# Altium integrated library Nuvoton Microprocessor Cortex-M0.IntLib: 45 symbols (part 1 of 2)
Pins are listed as number, name and electrical type; pins without a type are passive.

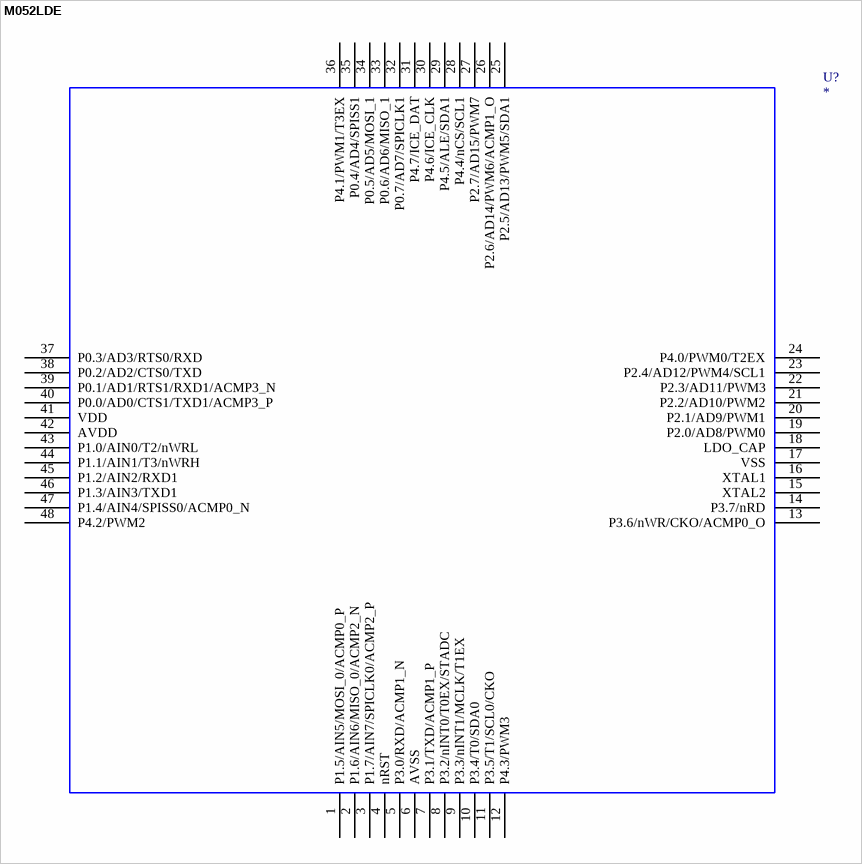
[diagram p0: symbol M052LDE]

## M052LDE
designator U?
M052LDE; OriginalSymbolOrigin: *; M052LDE: *; Value: *
footprint TSQFP50P900X900X150-48N (TSQFP, 48-Leads, Body 7.00x7.00mm, Pitch 0.50mm, IPC Medium Density)
footprint TSQFP50P900X900X150-48M (TSQFP, 48-Leads, Body 7.00x7.00mm, Pitch 0.50mm, IPC Low Density)
footprint TSQFP50P900X900X150-48L (TSQFP, 48-Leads, Body 7.00x7.00mm, Pitch 0.50mm, IPC High Density)
pins: 1 P1.5/AIN5/MOSI_0/ACMP0_P, 2 P1.6/AIN6/MISO_0/ACMP2_N, 3 P1.7/AIN7/SPICLK0/ACMP2_P, 4 nRST, 5 P3.0/RXD/ACMP1_N, 6 AVSS, 7 P3.1/TXD/ACMP1_P, 8 P3.2/nINT0/T0EX/STADC, 9 P3.3/nINT1/MCLK/T1EX, 10 P3.4/T0/SDA0, 11 P3.5/T1/SCL0/CKO, 12 P4.3/PWM3, 13 P3.6/nWR/CKO/ACMP0_O, 14 P3.7/nRD, 15 XTAL2, 16 XTAL1, 17 VSS, 18 LDO_CAP, 19 P2.0/AD8/PWM0, 20 P2.1/AD9/PWM1, 21 P2.2/AD10/PWM2, 22 P2.3/AD11/PWM3, 23 P2.4/AD12/PWM4/SCL1, 24 P4.0/PWM0/T2EX, 25 P2.5/AD13/PWM5/SDA1, 26 P2.6/AD14/PWM6/ACMP1_O, 27 P2.7/AD15/PWM7, 28 P4.4/nCS/SCL1, 29 P4.5/ALE/SDA1, 30 P4.6/ICE_CLK, 31 P4.7/ICE_DAT, 32 P0.7/AD7/SPICLK1, 33 P0.6/AD6/MISO_1, 34 P0.5/AD5/MOSI_1, 35 P0.4/AD4/SPISS1, 36 P4.1/PWM1/T3EX, 37 P0.3/AD3/RTS0/RXD, 38 P0.2/AD2/CTS0/TXD, 39 P0.1/AD1/RTS1/RXD1/ACMP3_N, 40 P0.0/AD0/CTS1/TXD1/ACMP3_P, 41 VDD, 42 AVDD, 43 P1.0/AIN0/T2/nWRL, 44 P1.1/AIN1/T3/nWRH, 45 P1.2/AIN2/RXD1, 46 P1.3/AIN3/TXD1, 47 P1.4/AIN4/SPISS0/ACMP0_N, 48 P4.2/PWM2
2 alternate drawings of the same symbol

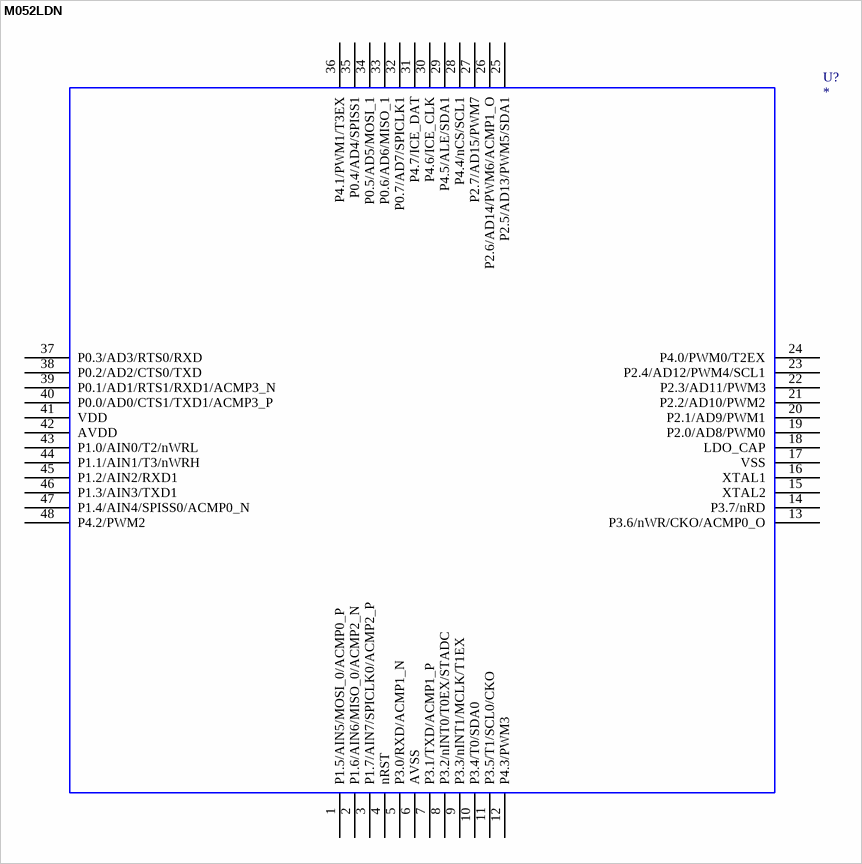
[diagram p1: symbol M052LDN]

## M052LDN
designator U?
M052LDN; OriginalSymbolOrigin: *; M052LDN: *; Value: *
footprint TSQFP50P900X900X150-48M (TSQFP, 48-Leads, Body 7.00x7.00mm, Pitch 0.50mm, IPC Low Density)
footprint TSQFP50P900X900X150-48N (TSQFP, 48-Leads, Body 7.00x7.00mm, Pitch 0.50mm, IPC Medium Density)
footprint TSQFP50P900X900X150-48L (TSQFP, 48-Leads, Body 7.00x7.00mm, Pitch 0.50mm, IPC High Density)
pins: 1 P1.5/AIN5/MOSI_0/ACMP0_P, 2 P1.6/AIN6/MISO_0/ACMP2_N, 3 P1.7/AIN7/SPICLK0/ACMP2_P, 4 nRST, 5 P3.0/RXD/ACMP1_N, 6 AVSS, 7 P3.1/TXD/ACMP1_P, 8 P3.2/nINT0/T0EX/STADC, 9 P3.3/nINT1/MCLK/T1EX, 10 P3.4/T0/SDA0, 11 P3.5/T1/SCL0/CKO, 12 P4.3/PWM3, 13 P3.6/nWR/CKO/ACMP0_O, 14 P3.7/nRD, 15 XTAL2, 16 XTAL1, 17 VSS, 18 LDO_CAP, 19 P2.0/AD8/PWM0, 20 P2.1/AD9/PWM1, 21 P2.2/AD10/PWM2, 22 P2.3/AD11/PWM3, 23 P2.4/AD12/PWM4/SCL1, 24 P4.0/PWM0/T2EX, 25 P2.5/AD13/PWM5/SDA1, 26 P2.6/AD14/PWM6/ACMP1_O, 27 P2.7/AD15/PWM7, 28 P4.4/nCS/SCL1, 29 P4.5/ALE/SDA1, 30 P4.6/ICE_CLK, 31 P4.7/ICE_DAT, 32 P0.7/AD7/SPICLK1, 33 P0.6/AD6/MISO_1, 34 P0.5/AD5/MOSI_1, 35 P0.4/AD4/SPISS1, 36 P4.1/PWM1/T3EX, 37 P0.3/AD3/RTS0/RXD, 38 P0.2/AD2/CTS0/TXD, 39 P0.1/AD1/RTS1/RXD1/ACMP3_N, 40 P0.0/AD0/CTS1/TXD1/ACMP3_P, 41 VDD, 42 AVDD, 43 P1.0/AIN0/T2/nWRL, 44 P1.1/AIN1/T3/nWRH, 45 P1.2/AIN2/RXD1, 46 P1.3/AIN3/TXD1, 47 P1.4/AIN4/SPISS0/ACMP0_N, 48 P4.2/PWM2
2 alternate drawings of the same symbol

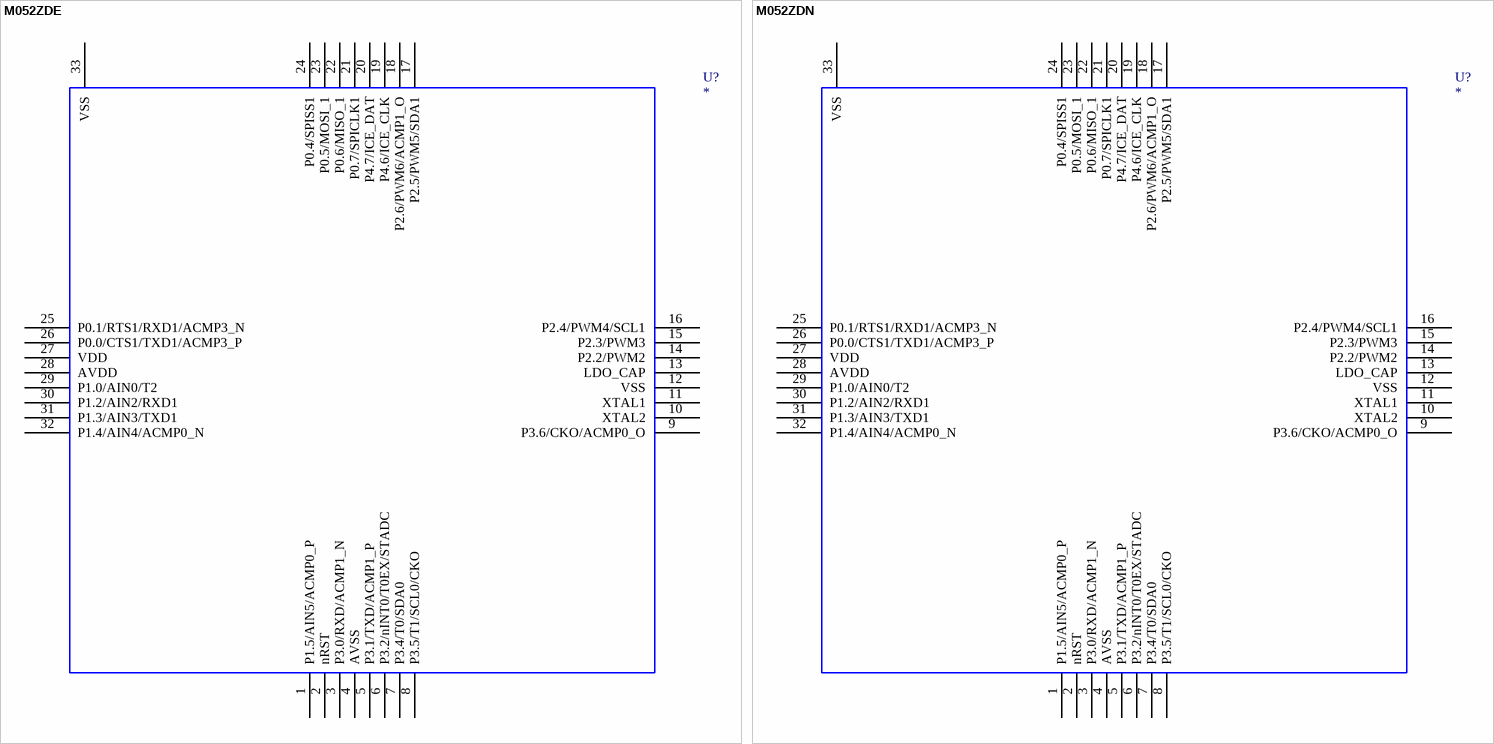
[diagram p2: symbols M052ZDE to M052ZDN]

## M052ZDE
designator U?
M052ZDE; OriginalSymbolOrigin: *; M052ZDE: *; Value: *
footprint QFN50P500X500X80_HS-33N (QFN, 32-Leads, Body 5.00x5.00mm, Pitch 0.50mm, Thermal Pad 3.50x3.50mm, IPC Medium Density)
footprint QFN50P500X500X80_HS-33M (QFN, 32-Leads, Body 5.00x5.00mm, Pitch 0.50mm, Thermal Pad 3.50x3.50mm, IPC Low Density)
footprint QFN50P500X500X80_HS-33L (QFN, 32-Leads, Body 5.00x5.00mm, Pitch 0.50mm, Thermal Pad 3.50x3.50mm, IPC High Density)
pins: 1 P1.5/AIN5/ACMP0_P, 2 nRST, 3 P3.0/RXD/ACMP1_N, 4 AVSS, 5 P3.1/TXD/ACMP1_P, 6 P3.2/nINT0/T0EX/STADC, 7 P3.4/T0/SDA0, 8 P3.5/T1/SCL0/CKO, 9 P3.6/CKO/ACMP0_O, 10 XTAL2, 11 XTAL1, 12 VSS, 13 LDO_CAP, 14 P2.2/PWM2, 15 P2.3/PWM3, 16 P2.4/PWM4/SCL1, 17 P2.5/PWM5/SDA1, 18 P2.6/PWM6/ACMP1_O, 19 P4.6/ICE_CLK, 20 P4.7/ICE_DAT, 21 P0.7/SPICLK1, 22 P0.6/MISO_1, 23 P0.5/MOSI_1, 24 P0.4/SPISS1, 25 P0.1/RTS1/RXD1/ACMP3_N, 26 P0.0/CTS1/TXD1/ACMP3_P, 27 VDD, 28 AVDD, 29 P1.0/AIN0/T2, 30 P1.2/AIN2/RXD1, 31 P1.3/AIN3/TXD1, 32 P1.4/AIN4/ACMP0_N, 33 VSS
2 alternate drawings of the same symbol

## M052ZDN
designator U?
M052ZDN; OriginalSymbolOrigin: *; M052ZDN: *; Value: *
footprint QFN50P500X500X80_HS-33N (QFN, 32-Leads, Body 5.00x5.00mm, Pitch 0.50mm, Thermal Pad 3.50x3.50mm, IPC Medium Density)
footprint QFN50P500X500X80_HS-33M (QFN, 32-Leads, Body 5.00x5.00mm, Pitch 0.50mm, Thermal Pad 3.50x3.50mm, IPC Low Density)
footprint QFN50P500X500X80_HS-33L (QFN, 32-Leads, Body 5.00x5.00mm, Pitch 0.50mm, Thermal Pad 3.50x3.50mm, IPC High Density)
pins: 1 P1.5/AIN5/ACMP0_P, 2 nRST, 3 P3.0/RXD/ACMP1_N, 4 AVSS, 5 P3.1/TXD/ACMP1_P, 6 P3.2/nINT0/T0EX/STADC, 7 P3.4/T0/SDA0, 8 P3.5/T1/SCL0/CKO, 9 P3.6/CKO/ACMP0_O, 10 XTAL2, 11 XTAL1, 12 VSS, 13 LDO_CAP, 14 P2.2/PWM2, 15 P2.3/PWM3, 16 P2.4/PWM4/SCL1, 17 P2.5/PWM5/SDA1, 18 P2.6/PWM6/ACMP1_O, 19 P4.6/ICE_CLK, 20 P4.7/ICE_DAT, 21 P0.7/SPICLK1, 22 P0.6/MISO_1, 23 P0.5/MOSI_1, 24 P0.4/SPISS1, 25 P0.1/RTS1/RXD1/ACMP3_N, 26 P0.0/CTS1/TXD1/ACMP3_P, 27 VDD, 28 AVDD, 29 P1.0/AIN0/T2, 30 P1.2/AIN2/RXD1, 31 P1.3/AIN3/TXD1, 32 P1.4/AIN4/ACMP0_N, 33 VSS
2 alternate drawings of the same symbol

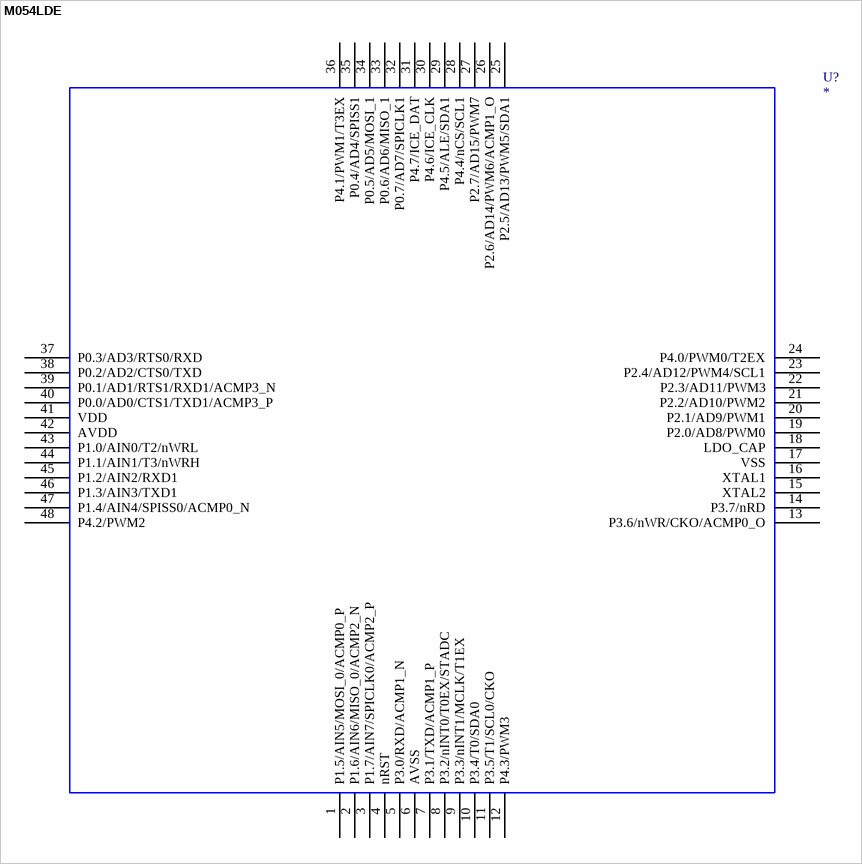
[diagram p3: symbol M054LDE]

## M054LDE
designator U?
M054LDE; OriginalSymbolOrigin: *; M054LDE: *; Value: *
footprint TSQFP50P900X900X150-48N (TSQFP, 48-Leads, Body 7.00x7.00mm, Pitch 0.50mm, IPC Medium Density)
footprint TSQFP50P900X900X150-48M (TSQFP, 48-Leads, Body 7.00x7.00mm, Pitch 0.50mm, IPC Low Density)
footprint TSQFP50P900X900X150-48L (TSQFP, 48-Leads, Body 7.00x7.00mm, Pitch 0.50mm, IPC High Density)
pins: 1 P1.5/AIN5/MOSI_0/ACMP0_P, 2 P1.6/AIN6/MISO_0/ACMP2_N, 3 P1.7/AIN7/SPICLK0/ACMP2_P, 4 nRST, 5 P3.0/RXD/ACMP1_N, 6 AVSS, 7 P3.1/TXD/ACMP1_P, 8 P3.2/nINT0/T0EX/STADC, 9 P3.3/nINT1/MCLK/T1EX, 10 P3.4/T0/SDA0, 11 P3.5/T1/SCL0/CKO, 12 P4.3/PWM3, 13 P3.6/nWR/CKO/ACMP0_O, 14 P3.7/nRD, 15 XTAL2, 16 XTAL1, 17 VSS, 18 LDO_CAP, 19 P2.0/AD8/PWM0, 20 P2.1/AD9/PWM1, 21 P2.2/AD10/PWM2, 22 P2.3/AD11/PWM3, 23 P2.4/AD12/PWM4/SCL1, 24 P4.0/PWM0/T2EX, 25 P2.5/AD13/PWM5/SDA1, 26 P2.6/AD14/PWM6/ACMP1_O, 27 P2.7/AD15/PWM7, 28 P4.4/nCS/SCL1, 29 P4.5/ALE/SDA1, 30 P4.6/ICE_CLK, 31 P4.7/ICE_DAT, 32 P0.7/AD7/SPICLK1, 33 P0.6/AD6/MISO_1, 34 P0.5/AD5/MOSI_1, 35 P0.4/AD4/SPISS1, 36 P4.1/PWM1/T3EX, 37 P0.3/AD3/RTS0/RXD, 38 P0.2/AD2/CTS0/TXD, 39 P0.1/AD1/RTS1/RXD1/ACMP3_N, 40 P0.0/AD0/CTS1/TXD1/ACMP3_P, 41 VDD, 42 AVDD, 43 P1.0/AIN0/T2/nWRL, 44 P1.1/AIN1/T3/nWRH, 45 P1.2/AIN2/RXD1, 46 P1.3/AIN3/TXD1, 47 P1.4/AIN4/SPISS0/ACMP0_N, 48 P4.2/PWM2
2 alternate drawings of the same symbol

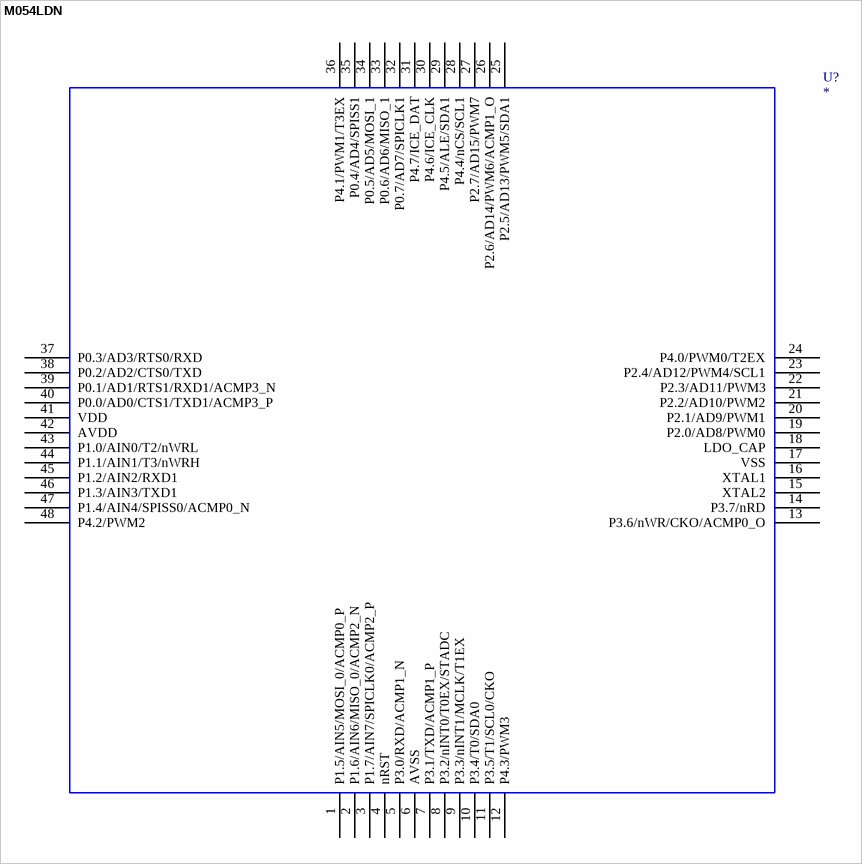
[diagram p4: symbol M054LDN]

## M054LDN
designator U?
M054LDN; OriginalSymbolOrigin: *; M054LDN: *; Value: *
footprint TSQFP50P900X900X150-48N (TSQFP, 48-Leads, Body 7.00x7.00mm, Pitch 0.50mm, IPC Medium Density)
footprint TSQFP50P900X900X150-48M (TSQFP, 48-Leads, Body 7.00x7.00mm, Pitch 0.50mm, IPC Low Density)
footprint TSQFP50P900X900X150-48L (TSQFP, 48-Leads, Body 7.00x7.00mm, Pitch 0.50mm, IPC High Density)
pins: 1 P1.5/AIN5/MOSI_0/ACMP0_P, 2 P1.6/AIN6/MISO_0/ACMP2_N, 3 P1.7/AIN7/SPICLK0/ACMP2_P, 4 nRST, 5 P3.0/RXD/ACMP1_N, 6 AVSS, 7 P3.1/TXD/ACMP1_P, 8 P3.2/nINT0/T0EX/STADC, 9 P3.3/nINT1/MCLK/T1EX, 10 P3.4/T0/SDA0, 11 P3.5/T1/SCL0/CKO, 12 P4.3/PWM3, 13 P3.6/nWR/CKO/ACMP0_O, 14 P3.7/nRD, 15 XTAL2, 16 XTAL1, 17 VSS, 18 LDO_CAP, 19 P2.0/AD8/PWM0, 20 P2.1/AD9/PWM1, 21 P2.2/AD10/PWM2, 22 P2.3/AD11/PWM3, 23 P2.4/AD12/PWM4/SCL1, 24 P4.0/PWM0/T2EX, 25 P2.5/AD13/PWM5/SDA1, 26 P2.6/AD14/PWM6/ACMP1_O, 27 P2.7/AD15/PWM7, 28 P4.4/nCS/SCL1, 29 P4.5/ALE/SDA1, 30 P4.6/ICE_CLK, 31 P4.7/ICE_DAT, 32 P0.7/AD7/SPICLK1, 33 P0.6/AD6/MISO_1, 34 P0.5/AD5/MOSI_1, 35 P0.4/AD4/SPISS1, 36 P4.1/PWM1/T3EX, 37 P0.3/AD3/RTS0/RXD, 38 P0.2/AD2/CTS0/TXD, 39 P0.1/AD1/RTS1/RXD1/ACMP3_N, 40 P0.0/AD0/CTS1/TXD1/ACMP3_P, 41 VDD, 42 AVDD, 43 P1.0/AIN0/T2/nWRL, 44 P1.1/AIN1/T3/nWRH, 45 P1.2/AIN2/RXD1, 46 P1.3/AIN3/TXD1, 47 P1.4/AIN4/SPISS0/ACMP0_N, 48 P4.2/PWM2
2 alternate drawings of the same symbol

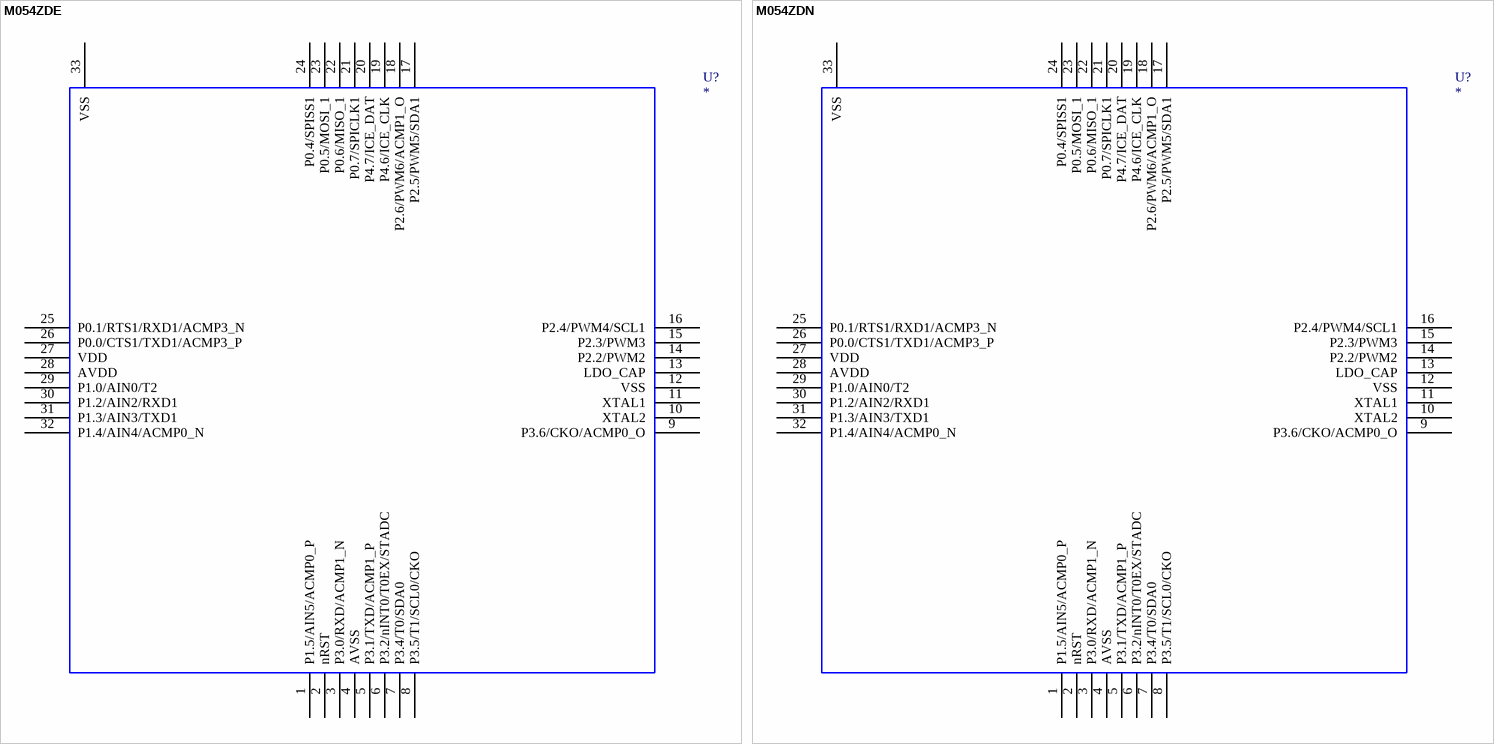
[diagram p5: symbols M054ZDE to M054ZDN]

## M054ZDE
designator U?
M054ZDE; OriginalSymbolOrigin: *; M054ZDE: *; Value: *
footprint QFN50P500X500X80_HS-33N (QFN, 32-Leads, Body 5.00x5.00mm, Pitch 0.50mm, Thermal Pad 3.50x3.50mm, IPC Medium Density)
footprint QFN50P500X500X80_HS-33M (QFN, 32-Leads, Body 5.00x5.00mm, Pitch 0.50mm, Thermal Pad 3.50x3.50mm, IPC Low Density)
footprint QFN50P500X500X80_HS-33L (QFN, 32-Leads, Body 5.00x5.00mm, Pitch 0.50mm, Thermal Pad 3.50x3.50mm, IPC High Density)
pins: 1 P1.5/AIN5/ACMP0_P, 2 nRST, 3 P3.0/RXD/ACMP1_N, 4 AVSS, 5 P3.1/TXD/ACMP1_P, 6 P3.2/nINT0/T0EX/STADC, 7 P3.4/T0/SDA0, 8 P3.5/T1/SCL0/CKO, 9 P3.6/CKO/ACMP0_O, 10 XTAL2, 11 XTAL1, 12 VSS, 13 LDO_CAP, 14 P2.2/PWM2, 15 P2.3/PWM3, 16 P2.4/PWM4/SCL1, 17 P2.5/PWM5/SDA1, 18 P2.6/PWM6/ACMP1_O, 19 P4.6/ICE_CLK, 20 P4.7/ICE_DAT, 21 P0.7/SPICLK1, 22 P0.6/MISO_1, 23 P0.5/MOSI_1, 24 P0.4/SPISS1, 25 P0.1/RTS1/RXD1/ACMP3_N, 26 P0.0/CTS1/TXD1/ACMP3_P, 27 VDD, 28 AVDD, 29 P1.0/AIN0/T2, 30 P1.2/AIN2/RXD1, 31 P1.3/AIN3/TXD1, 32 P1.4/AIN4/ACMP0_N, 33 VSS
2 alternate drawings of the same symbol

## M054ZDN
designator U?
M054ZDN; OriginalSymbolOrigin: *; M054ZDN: *; Value: *
footprint QFN50P500X500X80_HS-33N (QFN, 32-Leads, Body 5.00x5.00mm, Pitch 0.50mm, Thermal Pad 3.50x3.50mm, IPC Medium Density)
footprint QFN50P500X500X80_HS-33M (QFN, 32-Leads, Body 5.00x5.00mm, Pitch 0.50mm, Thermal Pad 3.50x3.50mm, IPC Low Density)
footprint QFN50P500X500X80_HS-33L (QFN, 32-Leads, Body 5.00x5.00mm, Pitch 0.50mm, Thermal Pad 3.50x3.50mm, IPC High Density)
pins: 1 P1.5/AIN5/ACMP0_P, 2 nRST, 3 P3.0/RXD/ACMP1_N, 4 AVSS, 5 P3.1/TXD/ACMP1_P, 6 P3.2/nINT0/T0EX/STADC, 7 P3.4/T0/SDA0, 8 P3.5/T1/SCL0/CKO, 9 P3.6/CKO/ACMP0_O, 10 XTAL2, 11 XTAL1, 12 VSS, 13 LDO_CAP, 14 P2.2/PWM2, 15 P2.3/PWM3, 16 P2.4/PWM4/SCL1, 17 P2.5/PWM5/SDA1, 18 P2.6/PWM6/ACMP1_O, 19 P4.6/ICE_CLK, 20 P4.7/ICE_DAT, 21 P0.7/SPICLK1, 22 P0.6/MISO_1, 23 P0.5/MOSI_1, 24 P0.4/SPISS1, 25 P0.1/RTS1/RXD1/ACMP3_N, 26 P0.0/CTS1/TXD1/ACMP3_P, 27 VDD, 28 AVDD, 29 P1.0/AIN0/T2, 30 P1.2/AIN2/RXD1, 31 P1.3/AIN3/TXD1, 32 P1.4/AIN4/ACMP0_N, 33 VSS
2 alternate drawings of the same symbol

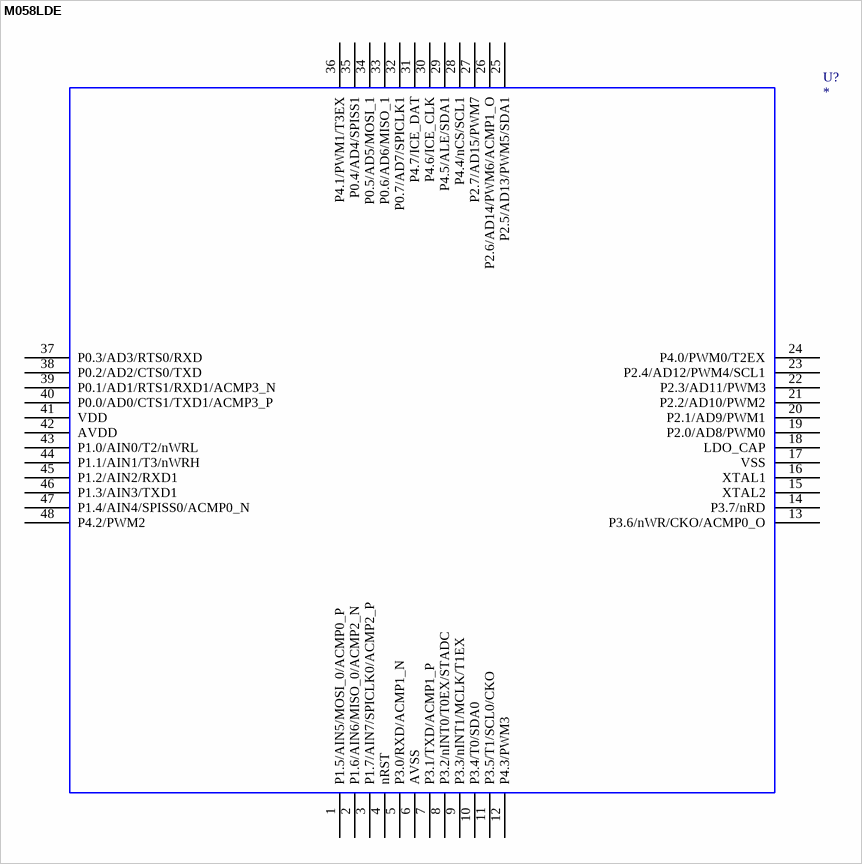
[diagram p6: symbol M058LDE]

## M058LDE
designator U?
M058LDE; OriginalSymbolOrigin: *; M058LDE: *; Value: *
footprint TSQFP50P900X900X150-48N (TSQFP, 48-Leads, Body 7.00x7.00mm, Pitch 0.50mm, IPC Medium Density)
footprint TSQFP50P900X900X150-48M (TSQFP, 48-Leads, Body 7.00x7.00mm, Pitch 0.50mm, IPC Low Density)
footprint TSQFP50P900X900X150-48L (TSQFP, 48-Leads, Body 7.00x7.00mm, Pitch 0.50mm, IPC High Density)
pins: 1 P1.5/AIN5/MOSI_0/ACMP0_P, 2 P1.6/AIN6/MISO_0/ACMP2_N, 3 P1.7/AIN7/SPICLK0/ACMP2_P, 4 nRST, 5 P3.0/RXD/ACMP1_N, 6 AVSS, 7 P3.1/TXD/ACMP1_P, 8 P3.2/nINT0/T0EX/STADC, 9 P3.3/nINT1/MCLK/T1EX, 10 P3.4/T0/SDA0, 11 P3.5/T1/SCL0/CKO, 12 P4.3/PWM3, 13 P3.6/nWR/CKO/ACMP0_O, 14 P3.7/nRD, 15 XTAL2, 16 XTAL1, 17 VSS, 18 LDO_CAP, 19 P2.0/AD8/PWM0, 20 P2.1/AD9/PWM1, 21 P2.2/AD10/PWM2, 22 P2.3/AD11/PWM3, 23 P2.4/AD12/PWM4/SCL1, 24 P4.0/PWM0/T2EX, 25 P2.5/AD13/PWM5/SDA1, 26 P2.6/AD14/PWM6/ACMP1_O, 27 P2.7/AD15/PWM7, 28 P4.4/nCS/SCL1, 29 P4.5/ALE/SDA1, 30 P4.6/ICE_CLK, 31 P4.7/ICE_DAT, 32 P0.7/AD7/SPICLK1, 33 P0.6/AD6/MISO_1, 34 P0.5/AD5/MOSI_1, 35 P0.4/AD4/SPISS1, 36 P4.1/PWM1/T3EX, 37 P0.3/AD3/RTS0/RXD, 38 P0.2/AD2/CTS0/TXD, 39 P0.1/AD1/RTS1/RXD1/ACMP3_N, 40 P0.0/AD0/CTS1/TXD1/ACMP3_P, 41 VDD, 42 AVDD, 43 P1.0/AIN0/T2/nWRL, 44 P1.1/AIN1/T3/nWRH, 45 P1.2/AIN2/RXD1, 46 P1.3/AIN3/TXD1, 47 P1.4/AIN4/SPISS0/ACMP0_N, 48 P4.2/PWM2
2 alternate drawings of the same symbol

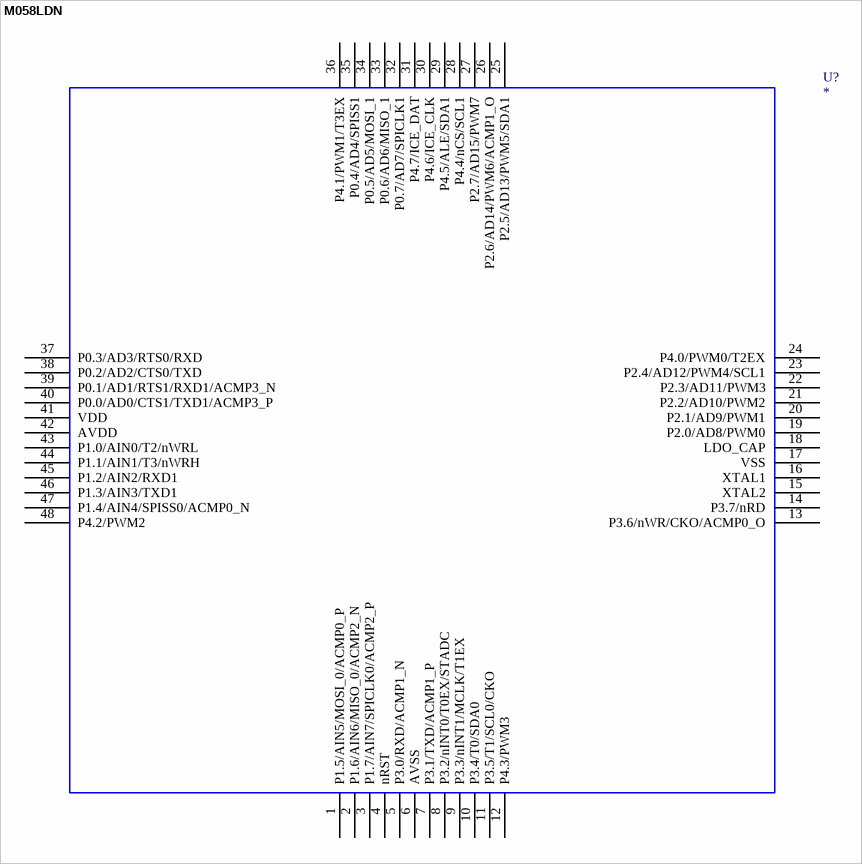
[diagram p7: symbol M058LDN]

## M058LDN
designator U?
M058LDN; OriginalSymbolOrigin: *; M058LDN: *; Value: *
footprint TSQFP50P900X900X150-48N (TSQFP, 48-Leads, Body 7.00x7.00mm, Pitch 0.50mm, IPC Medium Density)
footprint TSQFP50P900X900X150-48M (TSQFP, 48-Leads, Body 7.00x7.00mm, Pitch 0.50mm, IPC Low Density)
footprint TSQFP50P900X900X150-48L (TSQFP, 48-Leads, Body 7.00x7.00mm, Pitch 0.50mm, IPC High Density)
pins: 1 P1.5/AIN5/MOSI_0/ACMP0_P, 2 P1.6/AIN6/MISO_0/ACMP2_N, 3 P1.7/AIN7/SPICLK0/ACMP2_P, 4 nRST, 5 P3.0/RXD/ACMP1_N, 6 AVSS, 7 P3.1/TXD/ACMP1_P, 8 P3.2/nINT0/T0EX/STADC, 9 P3.3/nINT1/MCLK/T1EX, 10 P3.4/T0/SDA0, 11 P3.5/T1/SCL0/CKO, 12 P4.3/PWM3, 13 P3.6/nWR/CKO/ACMP0_O, 14 P3.7/nRD, 15 XTAL2, 16 XTAL1, 17 VSS, 18 LDO_CAP, 19 P2.0/AD8/PWM0, 20 P2.1/AD9/PWM1, 21 P2.2/AD10/PWM2, 22 P2.3/AD11/PWM3, 23 P2.4/AD12/PWM4/SCL1, 24 P4.0/PWM0/T2EX, 25 P2.5/AD13/PWM5/SDA1, 26 P2.6/AD14/PWM6/ACMP1_O, 27 P2.7/AD15/PWM7, 28 P4.4/nCS/SCL1, 29 P4.5/ALE/SDA1, 30 P4.6/ICE_CLK, 31 P4.7/ICE_DAT, 32 P0.7/AD7/SPICLK1, 33 P0.6/AD6/MISO_1, 34 P0.5/AD5/MOSI_1, 35 P0.4/AD4/SPISS1, 36 P4.1/PWM1/T3EX, 37 P0.3/AD3/RTS0/RXD, 38 P0.2/AD2/CTS0/TXD, 39 P0.1/AD1/RTS1/RXD1/ACMP3_N, 40 P0.0/AD0/CTS1/TXD1/ACMP3_P, 41 VDD, 42 AVDD, 43 P1.0/AIN0/T2/nWRL, 44 P1.1/AIN1/T3/nWRH, 45 P1.2/AIN2/RXD1, 46 P1.3/AIN3/TXD1, 47 P1.4/AIN4/SPISS0/ACMP0_N, 48 P4.2/PWM2
2 alternate drawings of the same symbol

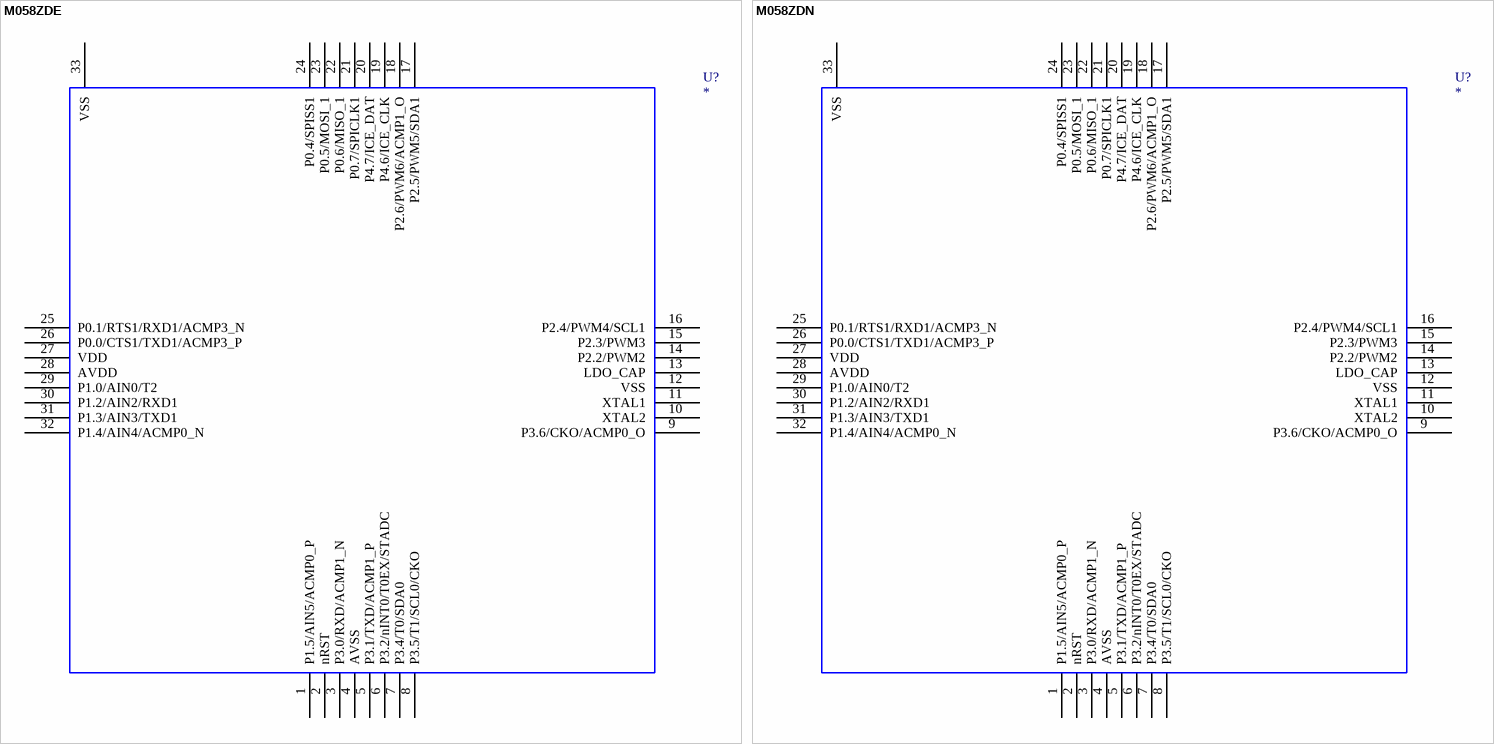
[diagram p8: symbols M058ZDE to M058ZDN]

## M058ZDE
designator U?
M058ZDE; OriginalSymbolOrigin: *; M058ZDE: *; Value: *
footprint QFN50P500X500X80_HS-33N (QFN, 32-Leads, Body 5.00x5.00mm, Pitch 0.50mm, Thermal Pad 3.50x3.50mm, IPC Medium Density)
footprint QFN50P500X500X80_HS-33M (QFN, 32-Leads, Body 5.00x5.00mm, Pitch 0.50mm, Thermal Pad 3.50x3.50mm, IPC Low Density)
footprint QFN50P500X500X80_HS-33L (QFN, 32-Leads, Body 5.00x5.00mm, Pitch 0.50mm, Thermal Pad 3.50x3.50mm, IPC High Density)
pins: 1 P1.5/AIN5/ACMP0_P, 2 nRST, 3 P3.0/RXD/ACMP1_N, 4 AVSS, 5 P3.1/TXD/ACMP1_P, 6 P3.2/nINT0/T0EX/STADC, 7 P3.4/T0/SDA0, 8 P3.5/T1/SCL0/CKO, 9 P3.6/CKO/ACMP0_O, 10 XTAL2, 11 XTAL1, 12 VSS, 13 LDO_CAP, 14 P2.2/PWM2, 15 P2.3/PWM3, 16 P2.4/PWM4/SCL1, 17 P2.5/PWM5/SDA1, 18 P2.6/PWM6/ACMP1_O, 19 P4.6/ICE_CLK, 20 P4.7/ICE_DAT, 21 P0.7/SPICLK1, 22 P0.6/MISO_1, 23 P0.5/MOSI_1, 24 P0.4/SPISS1, 25 P0.1/RTS1/RXD1/ACMP3_N, 26 P0.0/CTS1/TXD1/ACMP3_P, 27 VDD, 28 AVDD, 29 P1.0/AIN0/T2, 30 P1.2/AIN2/RXD1, 31 P1.3/AIN3/TXD1, 32 P1.4/AIN4/ACMP0_N, 33 VSS
2 alternate drawings of the same symbol

## M058ZDN
designator U?
M058ZDN; OriginalSymbolOrigin: *; M058ZDN: *; Value: *
footprint QFN50P500X500X80_HS-33N (QFN, 32-Leads, Body 5.00x5.00mm, Pitch 0.50mm, Thermal Pad 3.50x3.50mm, IPC Medium Density)
footprint QFN50P500X500X80_HS-33M (QFN, 32-Leads, Body 5.00x5.00mm, Pitch 0.50mm, Thermal Pad 3.50x3.50mm, IPC Low Density)
footprint QFN50P500X500X80_HS-33L (QFN, 32-Leads, Body 5.00x5.00mm, Pitch 0.50mm, Thermal Pad 3.50x3.50mm, IPC High Density)
pins: 1 P1.5/AIN5/ACMP0_P, 2 nRST, 3 P3.0/RXD/ACMP1_N, 4 AVSS, 5 P3.1/TXD/ACMP1_P, 6 P3.2/nINT0/T0EX/STADC, 7 P3.4/T0/SDA0, 8 P3.5/T1/SCL0/CKO, 9 P3.6/CKO/ACMP0_O, 10 XTAL2, 11 XTAL1, 12 VSS, 13 LDO_CAP, 14 P2.2/PWM2, 15 P2.3/PWM3, 16 P2.4/PWM4/SCL1, 17 P2.5/PWM5/SDA1, 18 P2.6/PWM6/ACMP1_O, 19 P4.6/ICE_CLK, 20 P4.7/ICE_DAT, 21 P0.7/SPICLK1, 22 P0.6/MISO_1, 23 P0.5/MOSI_1, 24 P0.4/SPISS1, 25 P0.1/RTS1/RXD1/ACMP3_N, 26 P0.0/CTS1/TXD1/ACMP3_P, 27 VDD, 28 AVDD, 29 P1.0/AIN0/T2, 30 P1.2/AIN2/RXD1, 31 P1.3/AIN3/TXD1, 32 P1.4/AIN4/ACMP0_N, 33 VSS
2 alternate drawings of the same symbol

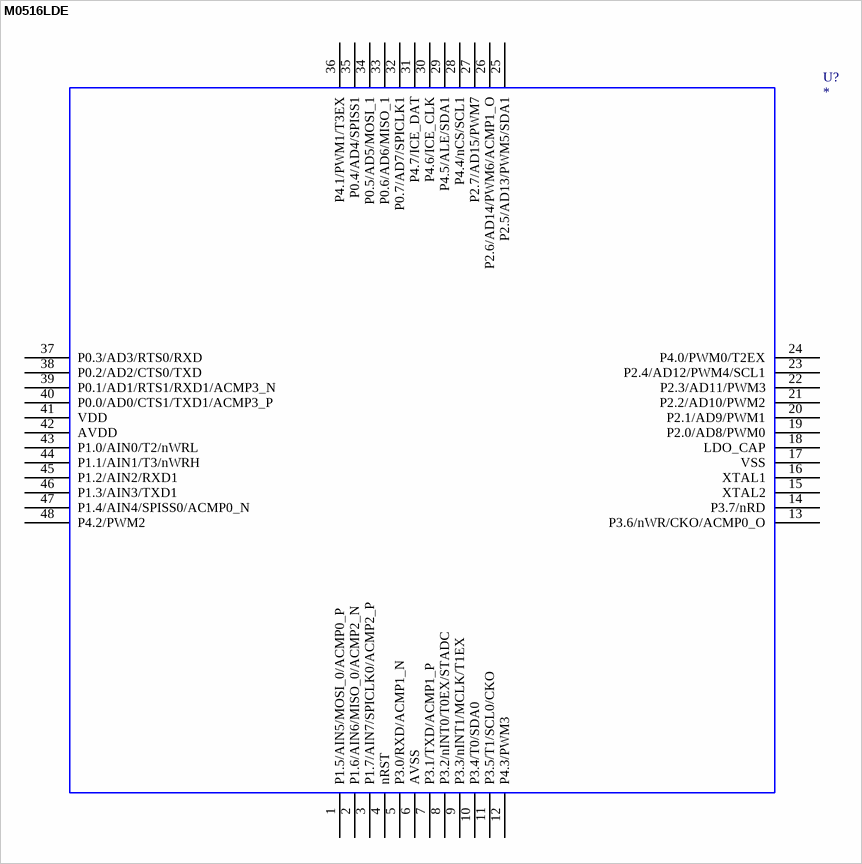
[diagram p9: symbol M0516LDE]

## M0516LDE
designator U?
M0516LDE; OriginalSymbolOrigin: *; M0516LDE: *; Value: *
footprint TSQFP50P900X900X150-48N (TSQFP, 48-Leads, Body 7.00x7.00mm, Pitch 0.50mm, IPC Medium Density)
footprint TSQFP50P900X900X150-48M (TSQFP, 48-Leads, Body 7.00x7.00mm, Pitch 0.50mm, IPC Low Density)
footprint TSQFP50P900X900X150-48L (TSQFP, 48-Leads, Body 7.00x7.00mm, Pitch 0.50mm, IPC High Density)
pins: 1 P1.5/AIN5/MOSI_0/ACMP0_P, 2 P1.6/AIN6/MISO_0/ACMP2_N, 3 P1.7/AIN7/SPICLK0/ACMP2_P, 4 nRST, 5 P3.0/RXD/ACMP1_N, 6 AVSS, 7 P3.1/TXD/ACMP1_P, 8 P3.2/nINT0/T0EX/STADC, 9 P3.3/nINT1/MCLK/T1EX, 10 P3.4/T0/SDA0, 11 P3.5/T1/SCL0/CKO, 12 P4.3/PWM3, 13 P3.6/nWR/CKO/ACMP0_O, 14 P3.7/nRD, 15 XTAL2, 16 XTAL1, 17 VSS, 18 LDO_CAP, 19 P2.0/AD8/PWM0, 20 P2.1/AD9/PWM1, 21 P2.2/AD10/PWM2, 22 P2.3/AD11/PWM3, 23 P2.4/AD12/PWM4/SCL1, 24 P4.0/PWM0/T2EX, 25 P2.5/AD13/PWM5/SDA1, 26 P2.6/AD14/PWM6/ACMP1_O, 27 P2.7/AD15/PWM7, 28 P4.4/nCS/SCL1, 29 P4.5/ALE/SDA1, 30 P4.6/ICE_CLK, 31 P4.7/ICE_DAT, 32 P0.7/AD7/SPICLK1, 33 P0.6/AD6/MISO_1, 34 P0.5/AD5/MOSI_1, 35 P0.4/AD4/SPISS1, 36 P4.1/PWM1/T3EX, 37 P0.3/AD3/RTS0/RXD, 38 P0.2/AD2/CTS0/TXD, 39 P0.1/AD1/RTS1/RXD1/ACMP3_N, 40 P0.0/AD0/CTS1/TXD1/ACMP3_P, 41 VDD, 42 AVDD, 43 P1.0/AIN0/T2/nWRL, 44 P1.1/AIN1/T3/nWRH, 45 P1.2/AIN2/RXD1, 46 P1.3/AIN3/TXD1, 47 P1.4/AIN4/SPISS0/ACMP0_N, 48 P4.2/PWM2
2 alternate drawings of the same symbol

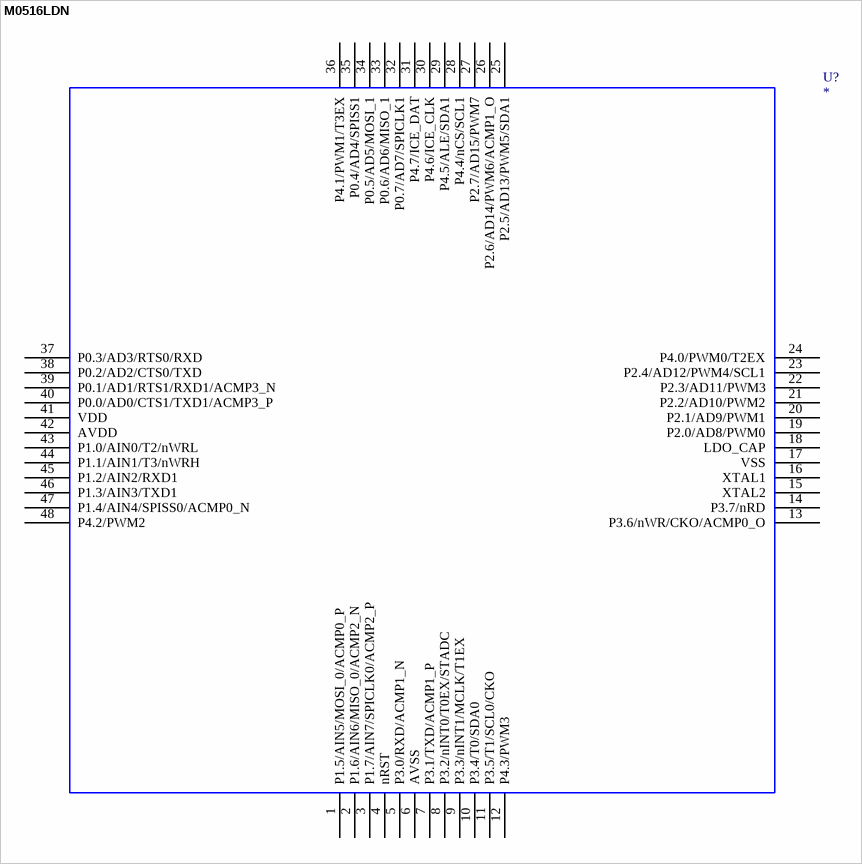
[diagram p10: symbol M0516LDN]

## M0516LDN
designator U?
M0516LDN; OriginalSymbolOrigin: *; M0516LDN: *; Value: *
footprint TSQFP50P900X900X150-48N (TSQFP, 48-Leads, Body 7.00x7.00mm, Pitch 0.50mm, IPC Medium Density)
footprint TSQFP50P900X900X150-48M (TSQFP, 48-Leads, Body 7.00x7.00mm, Pitch 0.50mm, IPC Low Density)
footprint TSQFP50P900X900X150-48L (TSQFP, 48-Leads, Body 7.00x7.00mm, Pitch 0.50mm, IPC High Density)
pins: 1 P1.5/AIN5/MOSI_0/ACMP0_P, 2 P1.6/AIN6/MISO_0/ACMP2_N, 3 P1.7/AIN7/SPICLK0/ACMP2_P, 4 nRST, 5 P3.0/RXD/ACMP1_N, 6 AVSS, 7 P3.1/TXD/ACMP1_P, 8 P3.2/nINT0/T0EX/STADC, 9 P3.3/nINT1/MCLK/T1EX, 10 P3.4/T0/SDA0, 11 P3.5/T1/SCL0/CKO, 12 P4.3/PWM3, 13 P3.6/nWR/CKO/ACMP0_O, 14 P3.7/nRD, 15 XTAL2, 16 XTAL1, 17 VSS, 18 LDO_CAP, 19 P2.0/AD8/PWM0, 20 P2.1/AD9/PWM1, 21 P2.2/AD10/PWM2, 22 P2.3/AD11/PWM3, 23 P2.4/AD12/PWM4/SCL1, 24 P4.0/PWM0/T2EX, 25 P2.5/AD13/PWM5/SDA1, 26 P2.6/AD14/PWM6/ACMP1_O, 27 P2.7/AD15/PWM7, 28 P4.4/nCS/SCL1, 29 P4.5/ALE/SDA1, 30 P4.6/ICE_CLK, 31 P4.7/ICE_DAT, 32 P0.7/AD7/SPICLK1, 33 P0.6/AD6/MISO_1, 34 P0.5/AD5/MOSI_1, 35 P0.4/AD4/SPISS1, 36 P4.1/PWM1/T3EX, 37 P0.3/AD3/RTS0/RXD, 38 P0.2/AD2/CTS0/TXD, 39 P0.1/AD1/RTS1/RXD1/ACMP3_N, 40 P0.0/AD0/CTS1/TXD1/ACMP3_P, 41 VDD, 42 AVDD, 43 P1.0/AIN0/T2/nWRL, 44 P1.1/AIN1/T3/nWRH, 45 P1.2/AIN2/RXD1, 46 P1.3/AIN3/TXD1, 47 P1.4/AIN4/SPISS0/ACMP0_N, 48 P4.2/PWM2
2 alternate drawings of the same symbol

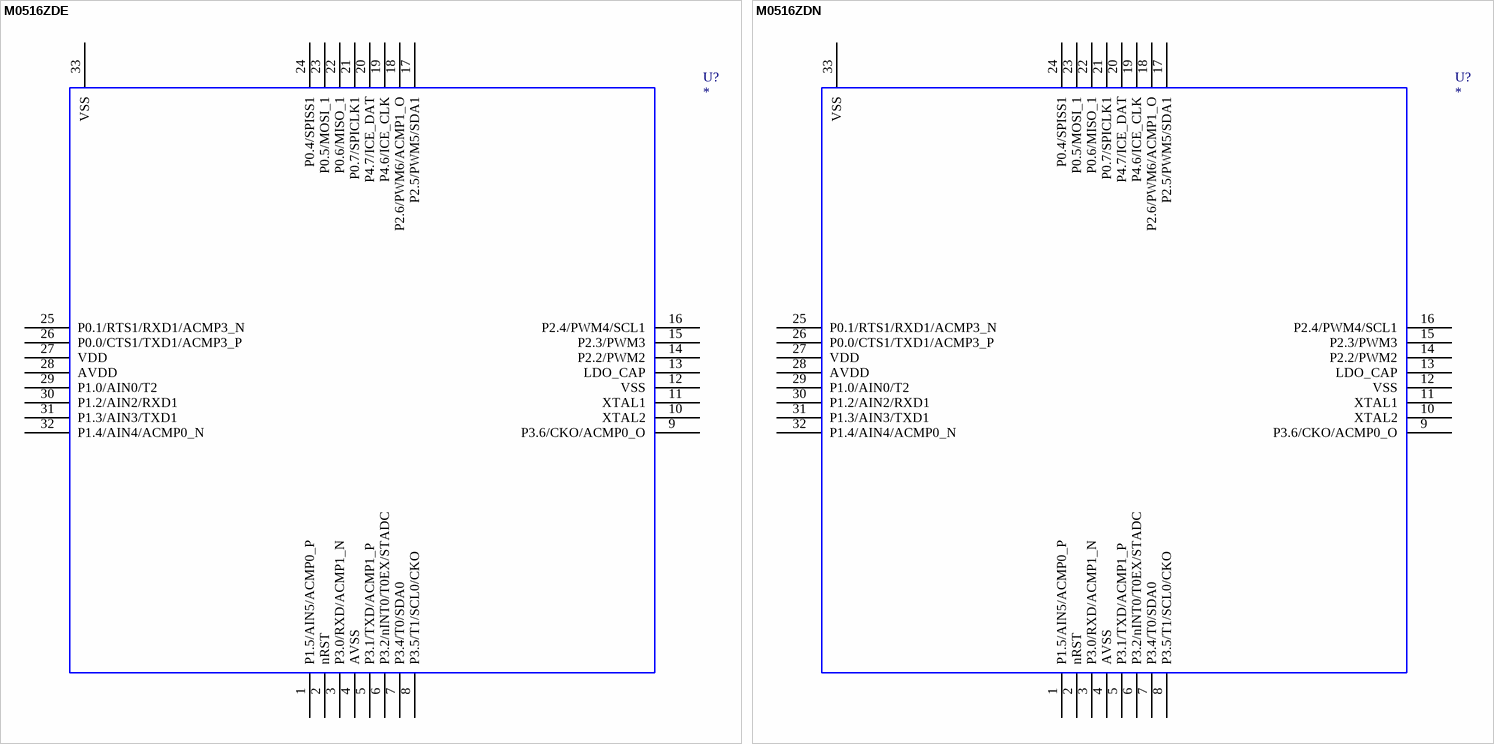
[diagram p11: symbols M0516ZDE to M0516ZDN]

## M0516ZDE
designator U?
M0516ZDE; OriginalSymbolOrigin: *; M0516ZDE: *; Value: *
footprint QFN50P500X500X80_HS-33N (QFN, 32-Leads, Body 5.00x5.00mm, Pitch 0.50mm, Thermal Pad 3.50x3.50mm, IPC Medium Density)
footprint QFN50P500X500X80_HS-33M (QFN, 32-Leads, Body 5.00x5.00mm, Pitch 0.50mm, Thermal Pad 3.50x3.50mm, IPC Low Density)
footprint QFN50P500X500X80_HS-33L (QFN, 32-Leads, Body 5.00x5.00mm, Pitch 0.50mm, Thermal Pad 3.50x3.50mm, IPC High Density)
pins: 1 P1.5/AIN5/ACMP0_P, 2 nRST, 3 P3.0/RXD/ACMP1_N, 4 AVSS, 5 P3.1/TXD/ACMP1_P, 6 P3.2/nINT0/T0EX/STADC, 7 P3.4/T0/SDA0, 8 P3.5/T1/SCL0/CKO, 9 P3.6/CKO/ACMP0_O, 10 XTAL2, 11 XTAL1, 12 VSS, 13 LDO_CAP, 14 P2.2/PWM2, 15 P2.3/PWM3, 16 P2.4/PWM4/SCL1, 17 P2.5/PWM5/SDA1, 18 P2.6/PWM6/ACMP1_O, 19 P4.6/ICE_CLK, 20 P4.7/ICE_DAT, 21 P0.7/SPICLK1, 22 P0.6/MISO_1, 23 P0.5/MOSI_1, 24 P0.4/SPISS1, 25 P0.1/RTS1/RXD1/ACMP3_N, 26 P0.0/CTS1/TXD1/ACMP3_P, 27 VDD, 28 AVDD, 29 P1.0/AIN0/T2, 30 P1.2/AIN2/RXD1, 31 P1.3/AIN3/TXD1, 32 P1.4/AIN4/ACMP0_N, 33 VSS
2 alternate drawings of the same symbol

## M0516ZDN
designator U?
M0516ZDN; OriginalSymbolOrigin: *; M0516ZDN: *; Value: *
footprint QFN50P500X500X80_HS-33N (QFN, 32-Leads, Body 5.00x5.00mm, Pitch 0.50mm, Thermal Pad 3.50x3.50mm, IPC Medium Density)
footprint QFN50P500X500X80_HS-33M (QFN, 32-Leads, Body 5.00x5.00mm, Pitch 0.50mm, Thermal Pad 3.50x3.50mm, IPC Low Density)
footprint QFN50P500X500X80_HS-33L (QFN, 32-Leads, Body 5.00x5.00mm, Pitch 0.50mm, Thermal Pad 3.50x3.50mm, IPC High Density)
pins: 1 P1.5/AIN5/ACMP0_P, 2 nRST, 3 P3.0/RXD/ACMP1_N, 4 AVSS, 5 P3.1/TXD/ACMP1_P, 6 P3.2/nINT0/T0EX/STADC, 7 P3.4/T0/SDA0, 8 P3.5/T1/SCL0/CKO, 9 P3.6/CKO/ACMP0_O, 10 XTAL2, 11 XTAL1, 12 VSS, 13 LDO_CAP, 14 P2.2/PWM2, 15 P2.3/PWM3, 16 P2.4/PWM4/SCL1, 17 P2.5/PWM5/SDA1, 18 P2.6/PWM6/ACMP1_O, 19 P4.6/ICE_CLK, 20 P4.7/ICE_DAT, 21 P0.7/SPICLK1, 22 P0.6/MISO_1, 23 P0.5/MOSI_1, 24 P0.4/SPISS1, 25 P0.1/RTS1/RXD1/ACMP3_N, 26 P0.0/CTS1/TXD1/ACMP3_P, 27 VDD, 28 AVDD, 29 P1.0/AIN0/T2, 30 P1.2/AIN2/RXD1, 31 P1.3/AIN3/TXD1, 32 P1.4/AIN4/ACMP0_N, 33 VSS
2 alternate drawings of the same symbol


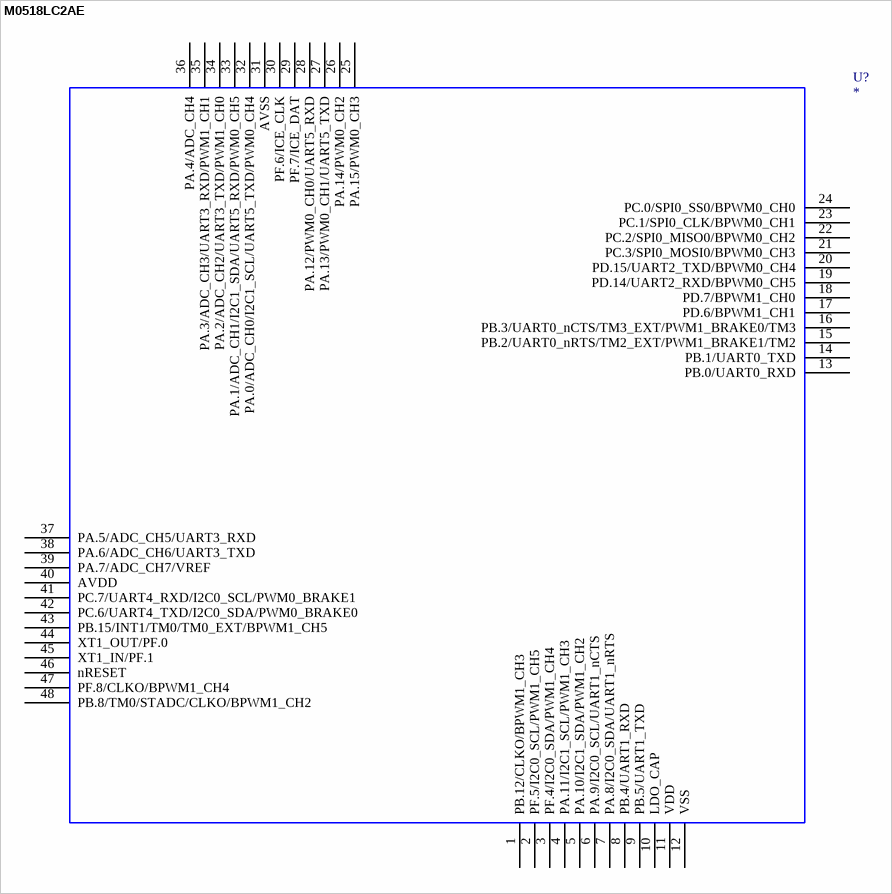
[diagram p12: symbol M0518LC2AE]

## M0518LC2AE
designator U?
M0518LC2AE; OriginalSymbolOrigin: *; M0518LC2AE: *; Value: *
footprint TSQFP50P900X900X150-48N (TSQFP, 48-Leads, Body 7.00x7.00mm, Pitch 0.50mm, IPC Medium Density)
footprint TSQFP50P900X900X150-48M (TSQFP, 48-Leads, Body 7.00x7.00mm, Pitch 0.50mm, IPC Low Density)
footprint TSQFP50P900X900X150-48L (TSQFP, 48-Leads, Body 7.00x7.00mm, Pitch 0.50mm, IPC High Density)
pins: 1 PB.12/CLKO/BPWM1_CH3, 2 PF.5/I2C0_SCL/PWM1_CH5, 3 PF.4/I2C0_SDA/PWM1_CH4, 4 PA.11/I2C1_SCL/PWM1_CH3, 5 PA.10/I2C1_SDA/PWM1_CH2, 6 PA.9/I2C0_SCL/UART1_nCTS, 7 PA.8/I2C0_SDA/UART1_nRTS, 8 PB.4/UART1_RXD, 9 PB.5/UART1_TXD, 10 LDO_CAP, 11 VDD, 12 VSS, 13 PB.0/UART0_RXD, 14 PB.1/UART0_TXD, 15 PB.2/UART0_nRTS/TM2_EXT/PWM1_BRAKE1/TM2, 16 PB.3/UART0_nCTS/TM3_EXT/PWM1_BRAKE0/TM3, 17 PD.6/BPWM1_CH1, 18 PD.7/BPWM1_CH0, 19 PD.14/UART2_RXD/BPWM0_CH5, 20 PD.15/UART2_TXD/BPWM0_CH4, 21 PC.3/SPI0_MOSI0/BPWM0_CH3, 22 PC.2/SPI0_MISO0/BPWM0_CH2, 23 PC.1/SPI0_CLK/BPWM0_CH1, 24 PC.0/SPI0_SS0/BPWM0_CH0, 25 PA.15/PWM0_CH3, 26 PA.14/PWM0_CH2, 27 PA.13/PWM0_CH1/UART5_TXD, 28 PA.12/PWM0_CH0/UART5_RXD, 29 PF.7/ICE_DAT, 30 PF.6/ICE_CLK, 31 AVSS, 32 PA.0/ADC_CH0/I2C1_SCL/UART5_TXD/PWM0_CH4, 33 PA.1/ADC_CH1/I2C1_SDA/UART5_RXD/PWM0_CH5, 34 PA.2/ADC_CH2/UART3_TXD/PWM1_CH0, 35 PA.3/ADC_CH3/UART3_RXD/PWM1_CH1, 36 PA.4/ADC_CH4, 37 PA.5/ADC_CH5/UART3_RXD, 38 PA.6/ADC_CH6/UART3_TXD, 39 PA.7/ADC_CH7/VREF, 40 AVDD, 41 PC.7/UART4_RXD/I2C0_SCL/PWM0_BRAKE1, 42 PC.6/UART4_TXD/I2C0_SDA/PWM0_BRAKE0, 43 PB.15/INT1/TM0/TM0_EXT/BPWM1_CH5, 44 XT1_OUT/PF.0, 45 XT1_IN/PF.1, 46 nRESET, 47 PF.8/CLKO/BPWM1_CH4, 48 PB.8/TM0/STADC/CLKO/BPWM1_CH2
2 alternate drawings of the same symbol

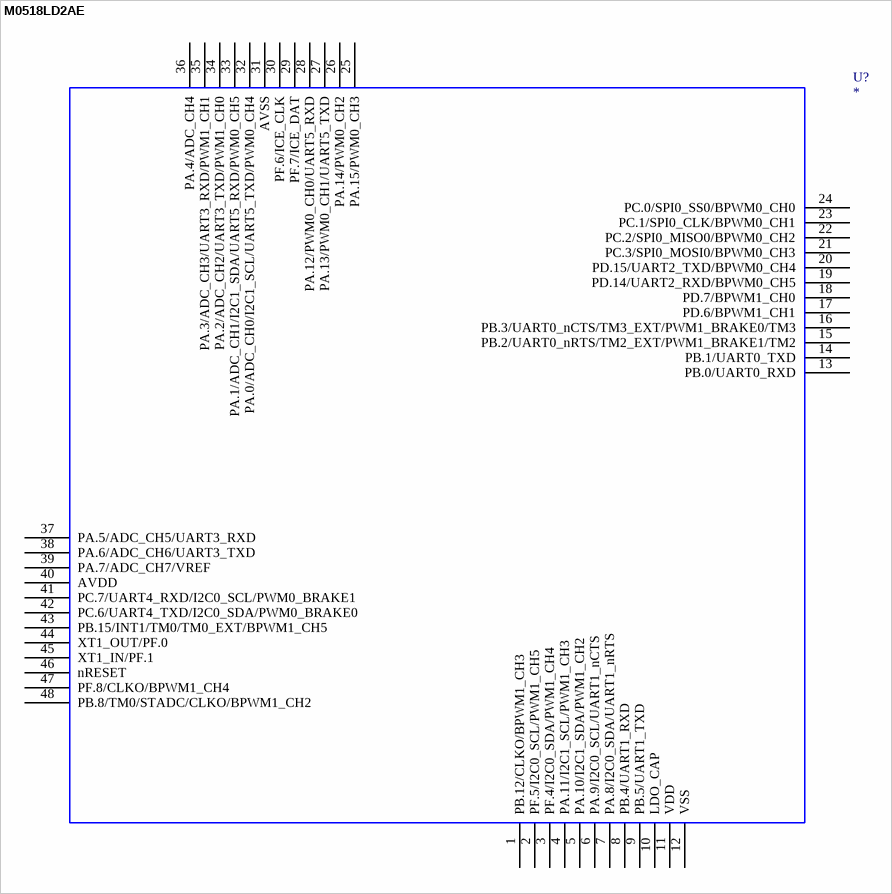
[diagram p13: symbol M0518LD2AE]

## M0518LD2AE
designator U?
M0518LD2AE; OriginalSymbolOrigin: *; M0518LD2AE: *; Value: *
footprint TSQFP50P900X900X150-48N (TSQFP, 48-Leads, Body 7.00x7.00mm, Pitch 0.50mm, IPC Medium Density)
footprint TSQFP50P900X900X150-48M (TSQFP, 48-Leads, Body 7.00x7.00mm, Pitch 0.50mm, IPC Low Density)
footprint TSQFP50P900X900X150-48L (TSQFP, 48-Leads, Body 7.00x7.00mm, Pitch 0.50mm, IPC High Density)
pins: 1 PB.12/CLKO/BPWM1_CH3, 2 PF.5/I2C0_SCL/PWM1_CH5, 3 PF.4/I2C0_SDA/PWM1_CH4, 4 PA.11/I2C1_SCL/PWM1_CH3, 5 PA.10/I2C1_SDA/PWM1_CH2, 6 PA.9/I2C0_SCL/UART1_nCTS, 7 PA.8/I2C0_SDA/UART1_nRTS, 8 PB.4/UART1_RXD, 9 PB.5/UART1_TXD, 10 LDO_CAP, 11 VDD, 12 VSS, 13 PB.0/UART0_RXD, 14 PB.1/UART0_TXD, 15 PB.2/UART0_nRTS/TM2_EXT/PWM1_BRAKE1/TM2, 16 PB.3/UART0_nCTS/TM3_EXT/PWM1_BRAKE0/TM3, 17 PD.6/BPWM1_CH1, 18 PD.7/BPWM1_CH0, 19 PD.14/UART2_RXD/BPWM0_CH5, 20 PD.15/UART2_TXD/BPWM0_CH4, 21 PC.3/SPI0_MOSI0/BPWM0_CH3, 22 PC.2/SPI0_MISO0/BPWM0_CH2, 23 PC.1/SPI0_CLK/BPWM0_CH1, 24 PC.0/SPI0_SS0/BPWM0_CH0, 25 PA.15/PWM0_CH3, 26 PA.14/PWM0_CH2, 27 PA.13/PWM0_CH1/UART5_TXD, 28 PA.12/PWM0_CH0/UART5_RXD, 29 PF.7/ICE_DAT, 30 PF.6/ICE_CLK, 31 AVSS, 32 PA.0/ADC_CH0/I2C1_SCL/UART5_TXD/PWM0_CH4, 33 PA.1/ADC_CH1/I2C1_SDA/UART5_RXD/PWM0_CH5, 34 PA.2/ADC_CH2/UART3_TXD/PWM1_CH0, 35 PA.3/ADC_CH3/UART3_RXD/PWM1_CH1, 36 PA.4/ADC_CH4, 37 PA.5/ADC_CH5/UART3_RXD, 38 PA.6/ADC_CH6/UART3_TXD, 39 PA.7/ADC_CH7/VREF, 40 AVDD, 41 PC.7/UART4_RXD/I2C0_SCL/PWM0_BRAKE1, 42 PC.6/UART4_TXD/I2C0_SDA/PWM0_BRAKE0, 43 PB.15/INT1/TM0/TM0_EXT/BPWM1_CH5, 44 XT1_OUT/PF.0, 45 XT1_IN/PF.1, 46 nRESET, 47 PF.8/CLKO/BPWM1_CH4, 48 PB.8/TM0/STADC/CLKO/BPWM1_CH2
2 alternate drawings of the same symbol

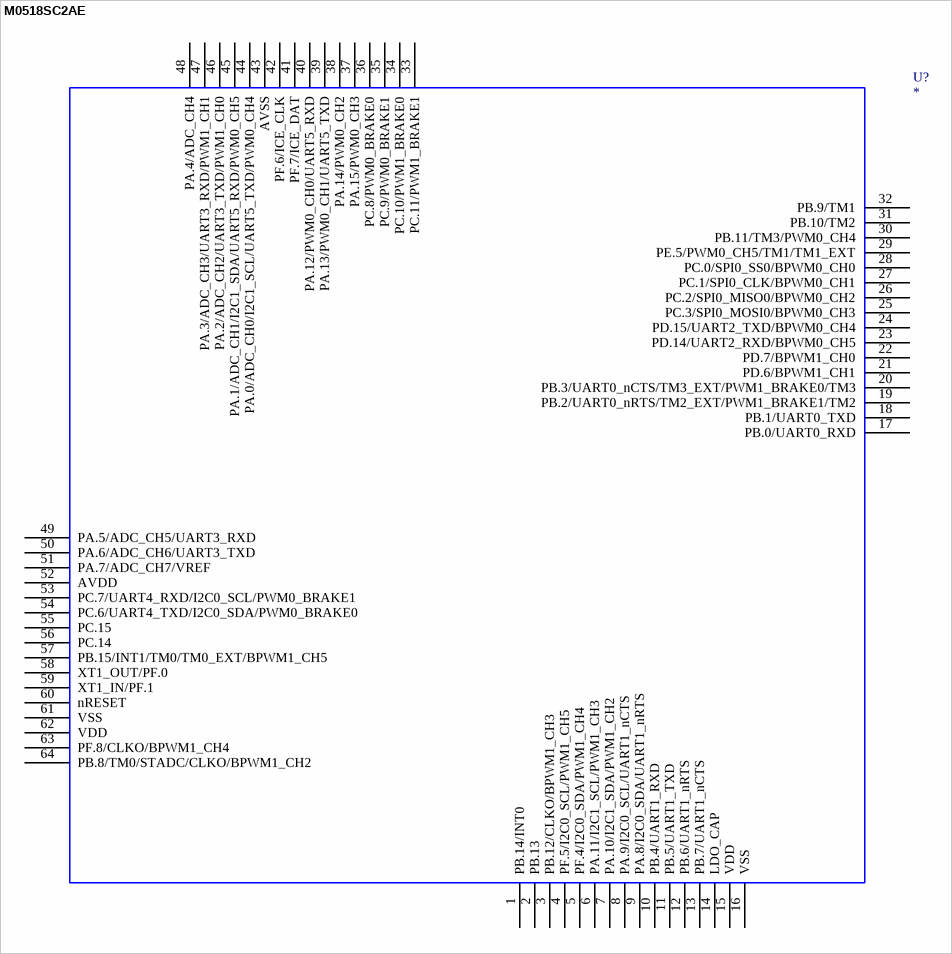
[diagram p14: symbol M0518SC2AE]

## M0518SC2AE
designator U?
M0518SC2AE; OriginalSymbolOrigin: *; M0518SC2AE: *; Value: *
footprint TSQFP40P900X900X160-64N (TSQFP, 64-Leads, Body 7.00x7.00mm, Pitch 0.40mm, IPC Medium Density)
footprint TSQFP40P900X900X160-64M (TSQFP, 64-Leads, Body 7.00x7.00mm, Pitch 0.40mm, IPC Low Density)
footprint TSQFP40P900X900X160-64L (TSQFP, 64-Leads, Body 7.00x7.00mm, Pitch 0.40mm, IPC High Density)
pins: 1 PB.14/INT0, 2 PB.13, 3 PB.12/CLKO/BPWM1_CH3, 4 PF.5/I2C0_SCL/PWM1_CH5, 5 PF.4/I2C0_SDA/PWM1_CH4, 6 PA.11/I2C1_SCL/PWM1_CH3, 7 PA.10/I2C1_SDA/PWM1_CH2, 8 PA.9/I2C0_SCL/UART1_nCTS, 9 PA.8/I2C0_SDA/UART1_nRTS, 10 PB.4/UART1_RXD, 11 PB.5/UART1_TXD, 12 PB.6/UART1_nRTS, 13 PB.7/UART1_nCTS, 14 LDO_CAP, 15 VDD, 16 VSS, 17 PB.0/UART0_RXD, 18 PB.1/UART0_TXD, 19 PB.2/UART0_nRTS/TM2_EXT/PWM1_BRAKE1/TM2, 20 PB.3/UART0_nCTS/TM3_EXT/PWM1_BRAKE0/TM3, 21 PD.6/BPWM1_CH1, 22 PD.7/BPWM1_CH0, 23 PD.14/UART2_RXD/BPWM0_CH5, 24 PD.15/UART2_TXD/BPWM0_CH4, 25 PC.3/SPI0_MOSI0/BPWM0_CH3, 26 PC.2/SPI0_MISO0/BPWM0_CH2, 27 PC.1/SPI0_CLK/BPWM0_CH1, 28 PC.0/SPI0_SS0/BPWM0_CH0, 29 PE.5/PWM0_CH5/TM1/TM1_EXT, 30 PB.11/TM3/PWM0_CH4, 31 PB.10/TM2, 32 PB.9/TM1, 33 PC.11/PWM1_BRAKE1, 34 PC.10/PWM1_BRAKE0, 35 PC.9/PWM0_BRAKE1, 36 PC.8/PWM0_BRAKE0, 37 PA.15/PWM0_CH3, 38 PA.14/PWM0_CH2, 39 PA.13/PWM0_CH1/UART5_TXD, 40 PA.12/PWM0_CH0/UART5_RXD, 41 PF.7/ICE_DAT, 42 PF.6/ICE_CLK, 43 AVSS, 44 PA.0/ADC_CH0/I2C1_SCL/UART5_TXD/PWM0_CH4, 45 PA.1/ADC_CH1/I2C1_SDA/UART5_RXD/PWM0_CH5, 46 PA.2/ADC_CH2/UART3_TXD/PWM1_CH0, 47 PA.3/ADC_CH3/UART3_RXD/PWM1_CH1, 48 PA.4/ADC_CH4, 49 PA.5/ADC_CH5/UART3_RXD, 50 PA.6/ADC_CH6/UART3_TXD, 51 PA.7/ADC_CH7/VREF, 52 AVDD, 53 PC.7/UART4_RXD/I2C0_SCL/PWM0_BRAKE1, 54 PC.6/UART4_TXD/I2C0_SDA/PWM0_BRAKE0, 55 PC.15, 56 PC.14, 57 PB.15/INT1/TM0/TM0_EXT/BPWM1_CH5, 58 XT1_OUT/PF.0, 59 XT1_IN/PF.1, 60 nRESET, 61 VSS, 62 VDD, 63 PF.8/CLKO/BPWM1_CH4, 64 PB.8/TM0/STADC/CLKO/BPWM1_CH2
2 alternate drawings of the same symbol

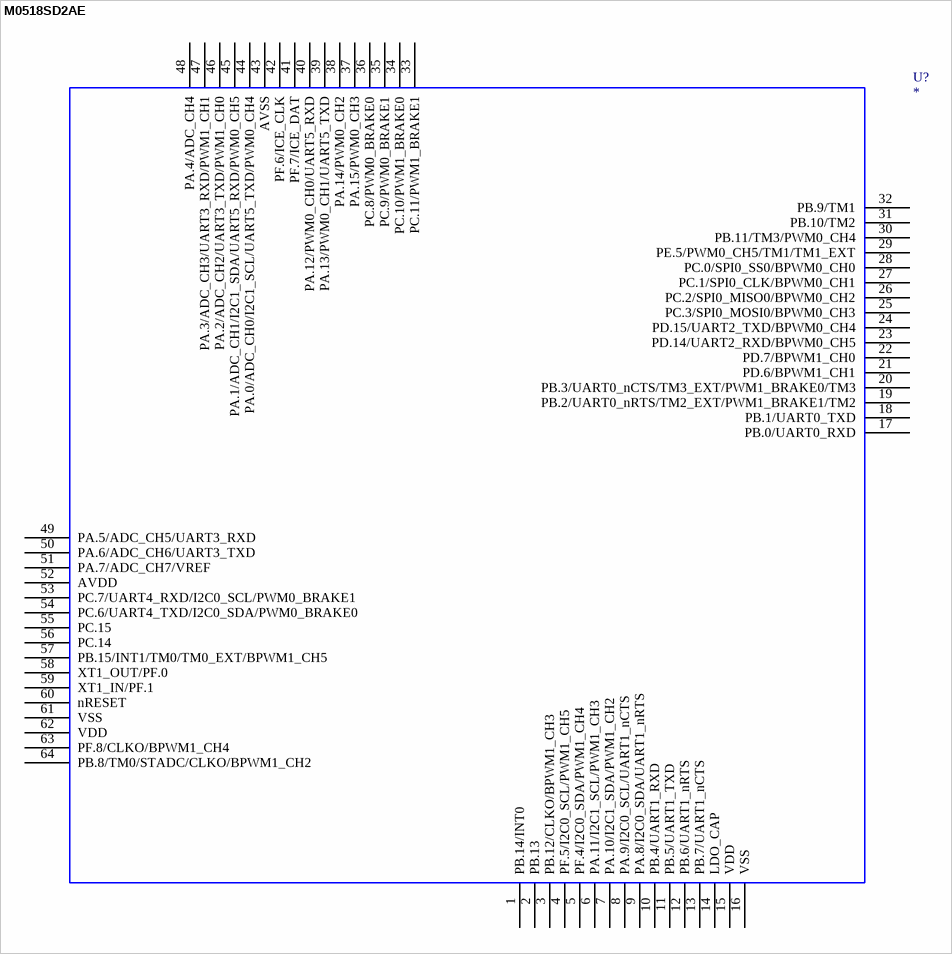
[diagram p15: symbol M0518SD2AE]

## M0518SD2AE
designator U?
M0518SD2AE; OriginalSymbolOrigin: *; M0518SD2AE: *; Value: *
footprint TSQFP40P900X900X160-64N (TSQFP, 64-Leads, Body 7.00x7.00mm, Pitch 0.40mm, IPC Medium Density)
footprint TSQFP40P900X900X160-64M (TSQFP, 64-Leads, Body 7.00x7.00mm, Pitch 0.40mm, IPC Low Density)
footprint TSQFP40P900X900X160-64L (TSQFP, 64-Leads, Body 7.00x7.00mm, Pitch 0.40mm, IPC High Density)
pins: 1 PB.14/INT0, 2 PB.13, 3 PB.12/CLKO/BPWM1_CH3, 4 PF.5/I2C0_SCL/PWM1_CH5, 5 PF.4/I2C0_SDA/PWM1_CH4, 6 PA.11/I2C1_SCL/PWM1_CH3, 7 PA.10/I2C1_SDA/PWM1_CH2, 8 PA.9/I2C0_SCL/UART1_nCTS, 9 PA.8/I2C0_SDA/UART1_nRTS, 10 PB.4/UART1_RXD, 11 PB.5/UART1_TXD, 12 PB.6/UART1_nRTS, 13 PB.7/UART1_nCTS, 14 LDO_CAP, 15 VDD, 16 VSS, 17 PB.0/UART0_RXD, 18 PB.1/UART0_TXD, 19 PB.2/UART0_nRTS/TM2_EXT/PWM1_BRAKE1/TM2, 20 PB.3/UART0_nCTS/TM3_EXT/PWM1_BRAKE0/TM3, 21 PD.6/BPWM1_CH1, 22 PD.7/BPWM1_CH0, 23 PD.14/UART2_RXD/BPWM0_CH5, 24 PD.15/UART2_TXD/BPWM0_CH4, 25 PC.3/SPI0_MOSI0/BPWM0_CH3, 26 PC.2/SPI0_MISO0/BPWM0_CH2, 27 PC.1/SPI0_CLK/BPWM0_CH1, 28 PC.0/SPI0_SS0/BPWM0_CH0, 29 PE.5/PWM0_CH5/TM1/TM1_EXT, 30 PB.11/TM3/PWM0_CH4, 31 PB.10/TM2, 32 PB.9/TM1, 33 PC.11/PWM1_BRAKE1, 34 PC.10/PWM1_BRAKE0, 35 PC.9/PWM0_BRAKE1, 36 PC.8/PWM0_BRAKE0, 37 PA.15/PWM0_CH3, 38 PA.14/PWM0_CH2, 39 PA.13/PWM0_CH1/UART5_TXD, 40 PA.12/PWM0_CH0/UART5_RXD, 41 PF.7/ICE_DAT, 42 PF.6/ICE_CLK, 43 AVSS, 44 PA.0/ADC_CH0/I2C1_SCL/UART5_TXD/PWM0_CH4, 45 PA.1/ADC_CH1/I2C1_SDA/UART5_RXD/PWM0_CH5, 46 PA.2/ADC_CH2/UART3_TXD/PWM1_CH0, 47 PA.3/ADC_CH3/UART3_RXD/PWM1_CH1, 48 PA.4/ADC_CH4, 49 PA.5/ADC_CH5/UART3_RXD, 50 PA.6/ADC_CH6/UART3_TXD, 51 PA.7/ADC_CH7/VREF, 52 AVDD, 53 PC.7/UART4_RXD/I2C0_SCL/PWM0_BRAKE1, 54 PC.6/UART4_TXD/I2C0_SDA/PWM0_BRAKE0, 55 PC.15, 56 PC.14, 57 PB.15/INT1/TM0/TM0_EXT/BPWM1_CH5, 58 XT1_OUT/PF.0, 59 XT1_IN/PF.1, 60 nRESET, 61 VSS, 62 VDD, 63 PF.8/CLKO/BPWM1_CH4, 64 PB.8/TM0/STADC/CLKO/BPWM1_CH2
2 alternate drawings of the same symbol


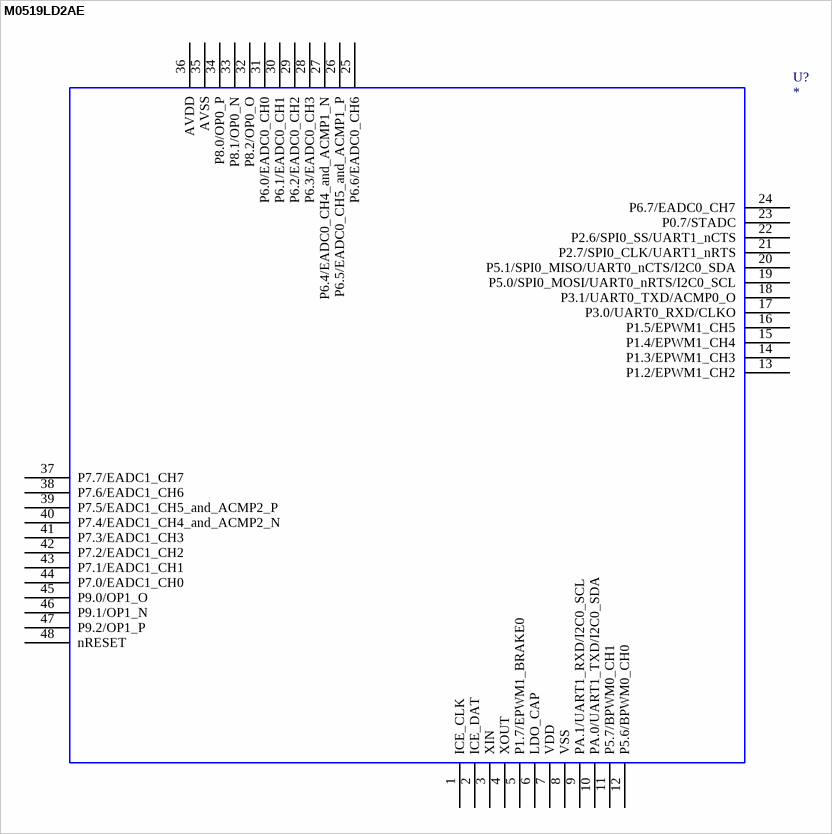
[diagram p16: symbol M0519LD2AE]

## M0519LD2AE
designator U?
M0519LD2AE; OriginalSymbolOrigin: *; M0519LD2AE: *; Value: *
footprint TSQFP50P900X900X150-48N (TSQFP, 48-Leads, Body 7.00x7.00mm, Pitch 0.50mm, IPC Medium Density)
footprint TSQFP50P900X900X150-48M (TSQFP, 48-Leads, Body 7.00x7.00mm, Pitch 0.50mm, IPC Low Density)
footprint TSQFP50P900X900X150-48L (TSQFP, 48-Leads, Body 7.00x7.00mm, Pitch 0.50mm, IPC High Density)
pins: 1 ICE_CLK, 2 ICE_DAT, 3 XIN, 4 XOUT, 5 P1.7/EPWM1_BRAKE0, 6 LDO_CAP, 7 VDD, 8 VSS, 9 PA.1/UART1_RXD/I2C0_SCL, 10 PA.0/UART1_TXD/I2C0_SDA, 11 P5.7/BPWM0_CH1, 12 P5.6/BPWM0_CH0, 13 P1.2/EPWM1_CH2, 14 P1.3/EPWM1_CH3, 15 P1.4/EPWM1_CH4, 16 P1.5/EPWM1_CH5, 17 P3.0/UART0_RXD/CLKO, 18 P3.1/UART0_TXD/ACMP0_O, 19 P5.0/SPI0_MOSI/UART0_nRTS/I2C0_SCL, 20 P5.1/SPI0_MISO/UART0_nCTS/I2C0_SDA, 21 P2.7/SPI0_CLK/UART1_nRTS, 22 P2.6/SPI0_SS/UART1_nCTS, 23 P0.7/STADC, 24 P6.7/EADC0_CH7, 25 P6.6/EADC0_CH6, 26 P6.5/EADC0_CH5_and_ACMP1_P, 27 P6.4/EADC0_CH4_and_ACMP1_N, 28 P6.3/EADC0_CH3, 29 P6.2/EADC0_CH2, 30 P6.1/EADC0_CH1, 31 P6.0/EADC0_CH0, 32 P8.2/OP0_O, 33 P8.1/OP0_N, 34 P8.0/OP0_P, 35 AVSS, 36 AVDD, 37 P7.7/EADC1_CH7, 38 P7.6/EADC1_CH6, 39 P7.5/EADC1_CH5_and_ACMP2_P, 40 P7.4/EADC1_CH4_and_ACMP2_N, 41 P7.3/EADC1_CH3, 42 P7.2/EADC1_CH2, 43 P7.1/EADC1_CH1, 44 P7.0/EADC1_CH0, 45 P9.0/OP1_O, 46 P9.1/OP1_N, 47 P9.2/OP1_P, 48 nRESET
2 alternate drawings of the same symbol

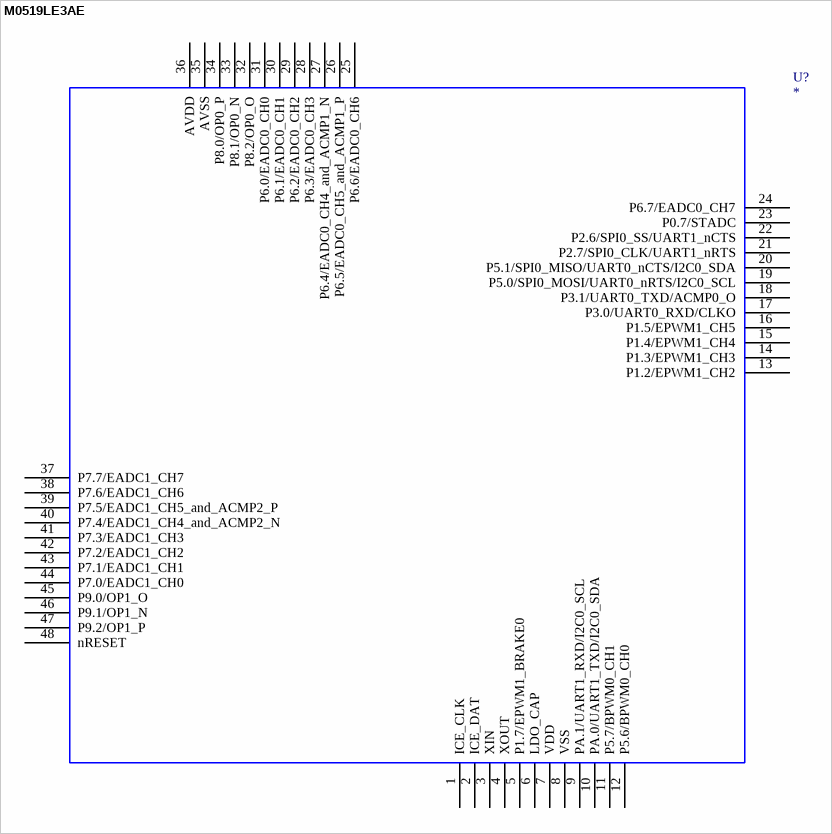
[diagram p17: symbol M0519LE3AE]

## M0519LE3AE
designator U?
M0519LE3AE; OriginalSymbolOrigin: *; M0519LE3AE: *; Value: *
footprint TSQFP50P900X900X150-48N (TSQFP, 48-Leads, Body 7.00x7.00mm, Pitch 0.50mm, IPC Medium Density)
footprint TSQFP50P900X900X150-48M (TSQFP, 48-Leads, Body 7.00x7.00mm, Pitch 0.50mm, IPC Low Density)
footprint TSQFP50P900X900X150-48L (TSQFP, 48-Leads, Body 7.00x7.00mm, Pitch 0.50mm, IPC High Density)
pins: 1 ICE_CLK, 2 ICE_DAT, 3 XIN, 4 XOUT, 5 P1.7/EPWM1_BRAKE0, 6 LDO_CAP, 7 VDD, 8 VSS, 9 PA.1/UART1_RXD/I2C0_SCL, 10 PA.0/UART1_TXD/I2C0_SDA, 11 P5.7/BPWM0_CH1, 12 P5.6/BPWM0_CH0, 13 P1.2/EPWM1_CH2, 14 P1.3/EPWM1_CH3, 15 P1.4/EPWM1_CH4, 16 P1.5/EPWM1_CH5, 17 P3.0/UART0_RXD/CLKO, 18 P3.1/UART0_TXD/ACMP0_O, 19 P5.0/SPI0_MOSI/UART0_nRTS/I2C0_SCL, 20 P5.1/SPI0_MISO/UART0_nCTS/I2C0_SDA, 21 P2.7/SPI0_CLK/UART1_nRTS, 22 P2.6/SPI0_SS/UART1_nCTS, 23 P0.7/STADC, 24 P6.7/EADC0_CH7, 25 P6.6/EADC0_CH6, 26 P6.5/EADC0_CH5_and_ACMP1_P, 27 P6.4/EADC0_CH4_and_ACMP1_N, 28 P6.3/EADC0_CH3, 29 P6.2/EADC0_CH2, 30 P6.1/EADC0_CH1, 31 P6.0/EADC0_CH0, 32 P8.2/OP0_O, 33 P8.1/OP0_N, 34 P8.0/OP0_P, 35 AVSS, 36 AVDD, 37 P7.7/EADC1_CH7, 38 P7.6/EADC1_CH6, 39 P7.5/EADC1_CH5_and_ACMP2_P, 40 P7.4/EADC1_CH4_and_ACMP2_N, 41 P7.3/EADC1_CH3, 42 P7.2/EADC1_CH2, 43 P7.1/EADC1_CH1, 44 P7.0/EADC1_CH0, 45 P9.0/OP1_O, 46 P9.1/OP1_N, 47 P9.2/OP1_P, 48 nRESET
2 alternate drawings of the same symbol

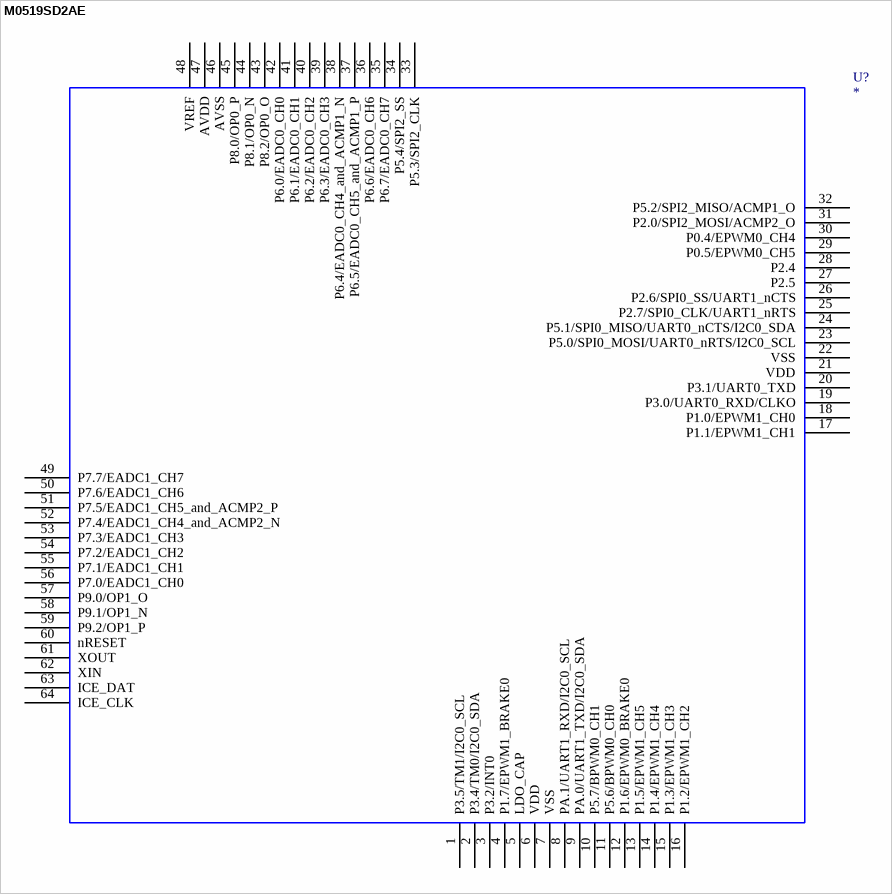
[diagram p18: symbol M0519SD2AE]

## M0519SD2AE
designator U?
M0519SD2AE; OriginalSymbolOrigin: *; M0519SD2AE: *; Value: *
footprint TSQFP40P900X900X160-64N (TSQFP, 64-Leads, Body 7.00x7.00mm, Pitch 0.40mm, IPC Medium Density)
footprint TSQFP40P900X900X160-64M (TSQFP, 64-Leads, Body 7.00x7.00mm, Pitch 0.40mm, IPC Low Density)
footprint TSQFP40P900X900X160-64L (TSQFP, 64-Leads, Body 7.00x7.00mm, Pitch 0.40mm, IPC High Density)
pins: 1 P3.5/TM1/I2C0_SCL, 2 P3.4/TM0/I2C0_SDA, 3 P3.2/INT0, 4 P1.7/EPWM1_BRAKE0, 5 LDO_CAP, 6 VDD, 7 VSS, 8 PA.1/UART1_RXD/I2C0_SCL, 9 PA.0/UART1_TXD/I2C0_SDA, 10 P5.7/BPWM0_CH1, 11 P5.6/BPWM0_CH0, 12 P1.6/EPWM0_BRAKE0, 13 P1.5/EPWM1_CH5, 14 P1.4/EPWM1_CH4, 15 P1.3/EPWM1_CH3, 16 P1.2/EPWM1_CH2, 17 P1.1/EPWM1_CH1, 18 P1.0/EPWM1_CH0, 19 P3.0/UART0_RXD/CLKO, 20 P3.1/UART0_TXD, 21 VDD, 22 VSS, 23 P5.0/SPI0_MOSI/UART0_nRTS/I2C0_SCL, 24 P5.1/SPI0_MISO/UART0_nCTS/I2C0_SDA, 25 P2.7/SPI0_CLK/UART1_nRTS, 26 P2.6/SPI0_SS/UART1_nCTS, 27 P2.5, 28 P2.4, 29 P0.5/EPWM0_CH5, 30 P0.4/EPWM0_CH4, 31 P2.0/SPI2_MOSI/ACMP2_O, 32 P5.2/SPI2_MISO/ACMP1_O, 33 P5.3/SPI2_CLK, 34 P5.4/SPI2_SS, 35 P6.7/EADC0_CH7, 36 P6.6/EADC0_CH6, 37 P6.5/EADC0_CH5_and_ACMP1_P, 38 P6.4/EADC0_CH4_and_ACMP1_N, 39 P6.3/EADC0_CH3, 40 P6.2/EADC0_CH2, 41 P6.1/EADC0_CH1, 42 P6.0/EADC0_CH0, 43 P8.2/OP0_O, 44 P8.1/OP0_N, 45 P8.0/OP0_P, 46 AVSS, 47 AVDD, 48 VREF, 49 P7.7/EADC1_CH7, 50 P7.6/EADC1_CH6, 51 P7.5/EADC1_CH5_and_ACMP2_P, 52 P7.4/EADC1_CH4_and_ACMP2_N, 53 P7.3/EADC1_CH3, 54 P7.2/EADC1_CH2, 55 P7.1/EADC1_CH1, 56 P7.0/EADC1_CH0, 57 P9.0/OP1_O, 58 P9.1/OP1_N, 59 P9.2/OP1_P, 60 nRESET, 61 XOUT, 62 XIN, 63 ICE_DAT, 64 ICE_CLK
2 alternate drawings of the same symbol

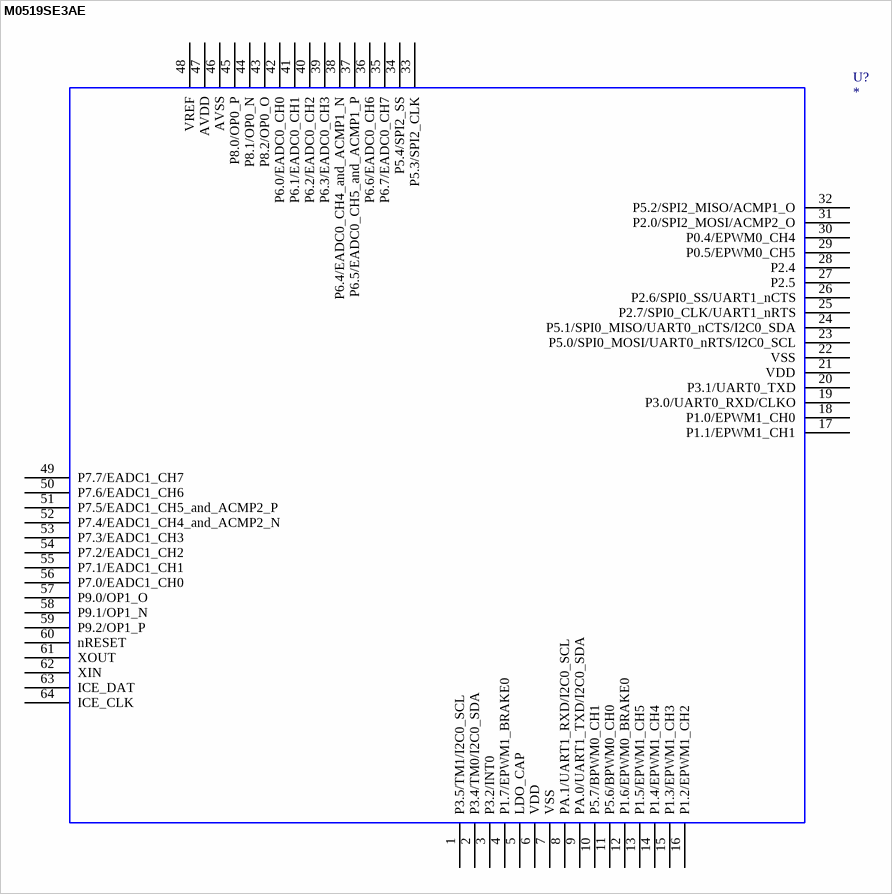
[diagram p19: symbol M0519SE3AE]

## M0519SE3AE
designator U?
M0519SE3AE; OriginalSymbolOrigin: *; M0519SE3AE: *; Value: *
footprint TSQFP40P900X900X160-64N (TSQFP, 64-Leads, Body 7.00x7.00mm, Pitch 0.40mm, IPC Medium Density)
footprint TSQFP40P900X900X160-64M (TSQFP, 64-Leads, Body 7.00x7.00mm, Pitch 0.40mm, IPC Low Density)
footprint TSQFP40P900X900X160-64L (TSQFP, 64-Leads, Body 7.00x7.00mm, Pitch 0.40mm, IPC High Density)
pins: 1 P3.5/TM1/I2C0_SCL, 2 P3.4/TM0/I2C0_SDA, 3 P3.2/INT0, 4 P1.7/EPWM1_BRAKE0, 5 LDO_CAP, 6 VDD, 7 VSS, 8 PA.1/UART1_RXD/I2C0_SCL, 9 PA.0/UART1_TXD/I2C0_SDA, 10 P5.7/BPWM0_CH1, 11 P5.6/BPWM0_CH0, 12 P1.6/EPWM0_BRAKE0, 13 P1.5/EPWM1_CH5, 14 P1.4/EPWM1_CH4, 15 P1.3/EPWM1_CH3, 16 P1.2/EPWM1_CH2, 17 P1.1/EPWM1_CH1, 18 P1.0/EPWM1_CH0, 19 P3.0/UART0_RXD/CLKO, 20 P3.1/UART0_TXD, 21 VDD, 22 VSS, 23 P5.0/SPI0_MOSI/UART0_nRTS/I2C0_SCL, 24 P5.1/SPI0_MISO/UART0_nCTS/I2C0_SDA, 25 P2.7/SPI0_CLK/UART1_nRTS, 26 P2.6/SPI0_SS/UART1_nCTS, 27 P2.5, 28 P2.4, 29 P0.5/EPWM0_CH5, 30 P0.4/EPWM0_CH4, 31 P2.0/SPI2_MOSI/ACMP2_O, 32 P5.2/SPI2_MISO/ACMP1_O, 33 P5.3/SPI2_CLK, 34 P5.4/SPI2_SS, 35 P6.7/EADC0_CH7, 36 P6.6/EADC0_CH6, 37 P6.5/EADC0_CH5_and_ACMP1_P, 38 P6.4/EADC0_CH4_and_ACMP1_N, 39 P6.3/EADC0_CH3, 40 P6.2/EADC0_CH2, 41 P6.1/EADC0_CH1, 42 P6.0/EADC0_CH0, 43 P8.2/OP0_O, 44 P8.1/OP0_N, 45 P8.0/OP0_P, 46 AVSS, 47 AVDD, 48 VREF, 49 P7.7/EADC1_CH7, 50 P7.6/EADC1_CH6, 51 P7.5/EADC1_CH5_and_ACMP2_P, 52 P7.4/EADC1_CH4_and_ACMP2_N, 53 P7.3/EADC1_CH3, 54 P7.2/EADC1_CH2, 55 P7.1/EADC1_CH1, 56 P7.0/EADC1_CH0, 57 P9.0/OP1_O, 58 P9.1/OP1_N, 59 P9.2/OP1_P, 60 nRESET, 61 XOUT, 62 XIN, 63 ICE_DAT, 64 ICE_CLK
2 alternate drawings of the same symbol

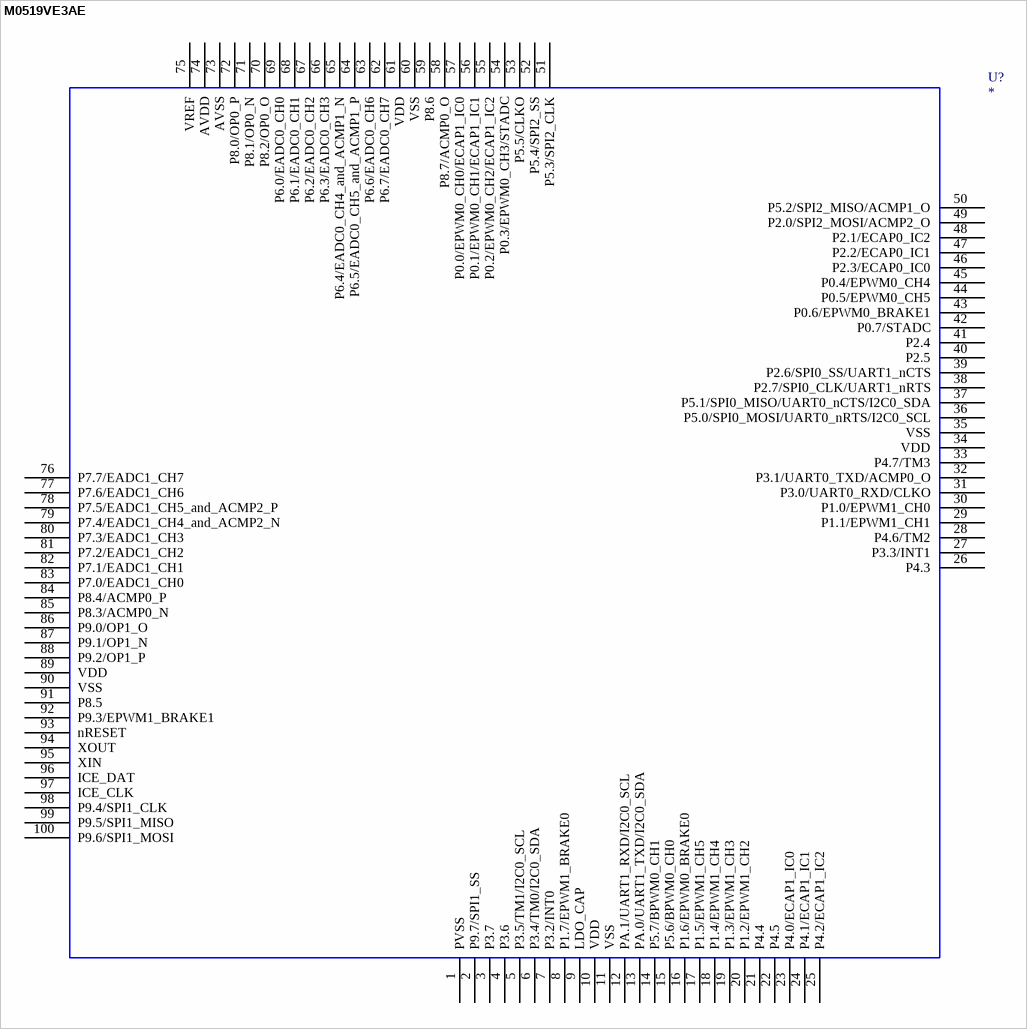
[diagram p20: symbol M0519VE3AE]

## M0519VE3AE
designator U?
M0519VE3AE; OriginalSymbolOrigin: *; M0519VE3AE: *; Value: *
footprint TSQFP50P1600X1600X160-100N (TSQFP, 100-Leads, Body 14.00x14.00mm, Pitch 0.50mm, IPC Medium Density)
footprint TSQFP50P1600X1600X160-100M (TSQFP, 100-Leads, Body 14.00x14.00mm, Pitch 0.50mm, IPC Low Density)
footprint TSQFP50P1600X1600X160-100L (TSQFP, 100-Leads, Body 14.00x14.00mm, Pitch 0.50mm, IPC High Density)
pins: 1 PVSS, 2 P9.7/SPI1_SS, 3 P3.7, 4 P3.6, 5 P3.5/TM1/I2C0_SCL, 6 P3.4/TM0/I2C0_SDA, 7 P3.2/INT0, 8 P1.7/EPWM1_BRAKE0, 9 LDO_CAP, 10 VDD, 11 VSS, 12 PA.1/UART1_RXD/I2C0_SCL, 13 PA.0/UART1_TXD/I2C0_SDA, 14 P5.7/BPWM0_CH1, 15 P5.6/BPWM0_CH0, 16 P1.6/EPWM0_BRAKE0, 17 P1.5/EPWM1_CH5, 18 P1.4/EPWM1_CH4, 19 P1.3/EPWM1_CH3, 20 P1.2/EPWM1_CH2, 21 P4.4, 22 P4.5, 23 P4.0/ECAP1_IC0, 24 P4.1/ECAP1_IC1, 25 P4.2/ECAP1_IC2, 26 P4.3, 27 P3.3/INT1, 28 P4.6/TM2, 29 P1.1/EPWM1_CH1, 30 P1.0/EPWM1_CH0, 31 P3.0/UART0_RXD/CLKO, 32 P3.1/UART0_TXD/ACMP0_O, 33 P4.7/TM3, 34 VDD, 35 VSS, 36 P5.0/SPI0_MOSI/UART0_nRTS/I2C0_SCL, 37 P5.1/SPI0_MISO/UART0_nCTS/I2C0_SDA, 38 P2.7/SPI0_CLK/UART1_nRTS, 39 P2.6/SPI0_SS/UART1_nCTS, 40 P2.5, 41 P2.4, 42 P0.7/STADC, 43 P0.6/EPWM0_BRAKE1, 44 P0.5/EPWM0_CH5, 45 P0.4/EPWM0_CH4, 46 P2.3/ECAP0_IC0, 47 P2.2/ECAP0_IC1, 48 P2.1/ECAP0_IC2, 49 P2.0/SPI2_MOSI/ACMP2_O, 50 P5.2/SPI2_MISO/ACMP1_O, 51 P5.3/SPI2_CLK, 52 P5.4/SPI2_SS, 53 P5.5/CLKO, 54 P0.3/EPWM0_CH3/STADC, 55 P0.2/EPWM0_CH2/ECAP1_IC2, 56 P0.1/EPWM0_CH1/ECAP1_IC1, 57 P0.0/EPWM0_CH0/ECAP1_IC0, 58 P8.7/ACMP0_O, 59 P8.6, 60 VSS, 61 VDD, 62 P6.7/EADC0_CH7, 63 P6.6/EADC0_CH6, 64 P6.5/EADC0_CH5_and_ACMP1_P, 65 P6.4/EADC0_CH4_and_ACMP1_N, 66 P6.3/EADC0_CH3, 67 P6.2/EADC0_CH2, 68 P6.1/EADC0_CH1, 69 P6.0/EADC0_CH0, 70 P8.2/OP0_O, 71 P8.1/OP0_N, 72 P8.0/OP0_P, 73 AVSS, 74 AVDD, 75 VREF, 76 P7.7/EADC1_CH7, 77 P7.6/EADC1_CH6, 78 P7.5/EADC1_CH5_and_ACMP2_P, 79 P7.4/EADC1_CH4_and_ACMP2_N, 80 P7.3/EADC1_CH3, 81 P7.2/EADC1_CH2, 82 P7.1/EADC1_CH1, 83 P7.0/EADC1_CH0, 84 P8.4/ACMP0_P, 85 P8.3/ACMP0_N, 86 P9.0/OP1_O, 87 P9.1/OP1_N, 88 P9.2/OP1_P, 89 VDD, 90 VSS, 91 P8.5, 92 P9.3/EPWM1_BRAKE1, 93 nRESET, 94 XOUT, 95 XIN, 96 ICE_DAT, 97 ICE_CLK, 98 P9.4/SPI1_CLK, 99 P9.5/SPI1_MISO, 100 P9.6/SPI1_MOSI
2 alternate drawings of the same symbol


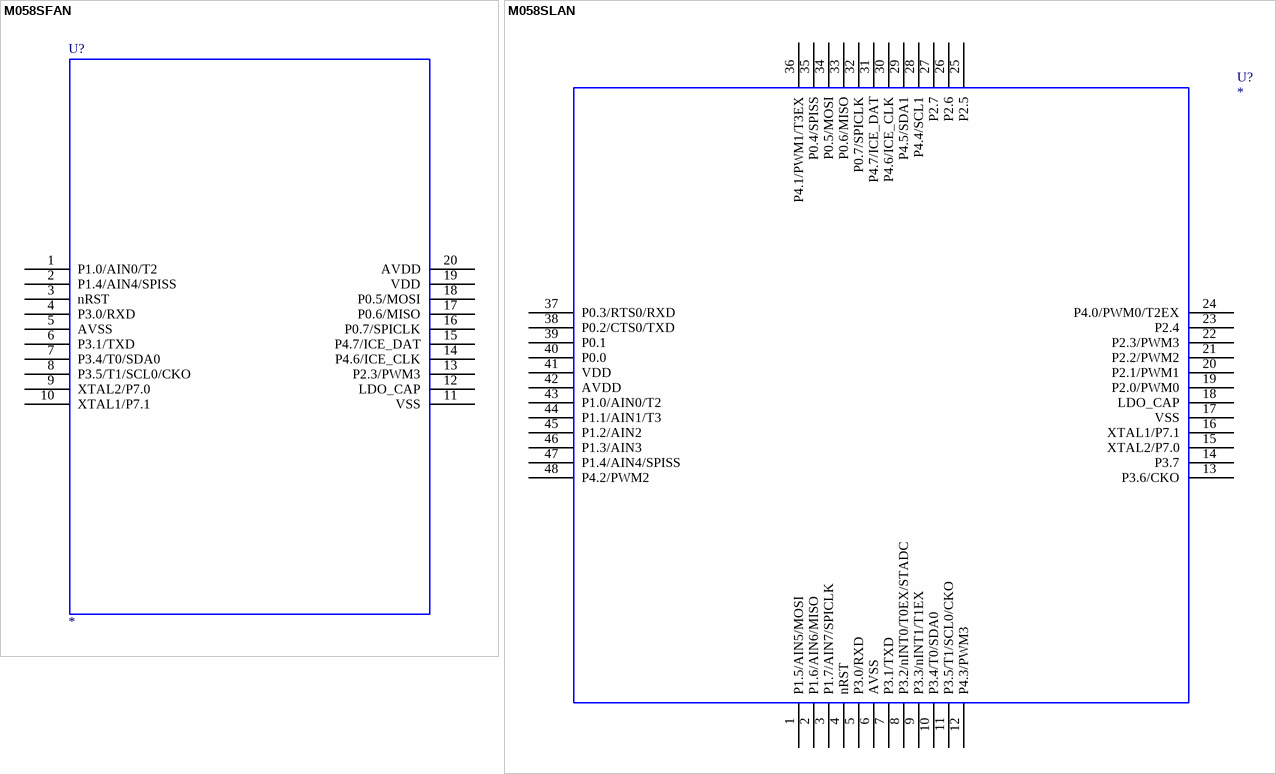
[diagram p21: symbols M058SFAN to M058SLAN]

## M058SFAN
designator U?
M058SFAN; OriginalSymbolOrigin: *; M058SFAN: *; Value: *
footprint TSOP65P640X120-20N (TSOP, 20-Leads, Body 6.50x4.40mm, Pitch 0.65mm, IPC Medium Density)
footprint TSOP65P640X120-20M (TSOP, 20-Leads, Body 6.50x4.40mm, Pitch 0.65mm, IPC Low Density)
footprint TSOP65P640X120-20M (TSOP, 20-Leads, Body 6.50x4.40mm, Pitch 0.65mm, IPC Low Density)
pins: 1 P1.0/AIN0/T2, 2 P1.4/AIN4/SPISS, 3 nRST, 4 P3.0/RXD, 5 AVSS, 6 P3.1/TXD, 7 P3.4/T0/SDA0, 8 P3.5/T1/SCL0/CKO, 9 XTAL2/P7.0, 10 XTAL1/P7.1, 11 VSS, 12 LDO_CAP, 13 P2.3/PWM3, 14 P4.6/ICE_CLK, 15 P4.7/ICE_DAT, 16 P0.7/SPICLK, 17 P0.6/MISO, 18 P0.5/MOSI, 19 VDD, 20 AVDD
2 alternate drawings of the same symbol

## M058SLAN
designator U?
M058SLAN; OriginalSymbolOrigin: *; M058SLAN: *; Value: *
footprint TSQFP50P900X900X150-48N (TSQFP, 48-Leads, Body 7.00x7.00mm, Pitch 0.50mm, IPC Medium Density)
footprint TSQFP50P900X900X150-48M (TSQFP, 48-Leads, Body 7.00x7.00mm, Pitch 0.50mm, IPC Low Density)
footprint TSQFP50P900X900X150-48L (TSQFP, 48-Leads, Body 7.00x7.00mm, Pitch 0.50mm, IPC High Density)
pins: 1 P1.5/AIN5/MOSI, 2 P1.6/AIN6/MISO, 3 P1.7/AIN7/SPICLK, 4 nRST, 5 P3.0/RXD, 6 AVSS, 7 P3.1/TXD, 8 P3.2/nINT0/T0EX/STADC, 9 P3.3/nINT1/T1EX, 10 P3.4/T0/SDA0, 11 P3.5/T1/SCL0/CKO, 12 P4.3/PWM3, 13 P3.6/CKO, 14 P3.7, 15 XTAL2/P7.0, 16 XTAL1/P7.1, 17 VSS, 18 LDO_CAP, 19 P2.0/PWM0, 20 P2.1/PWM1, 21 P2.2/PWM2, 22 P2.3/PWM3, 23 P2.4, 24 P4.0/PWM0/T2EX, 25 P2.5, 26 P2.6, 27 P2.7, 28 P4.4/SCL1, 29 P4.5/SDA1, 30 P4.6/ICE_CLK, 31 P4.7/ICE_DAT, 32 P0.7/SPICLK, 33 P0.6/MISO, 34 P0.5/MOSI, 35 P0.4/SPISS, 36 P4.1/PWM1/T3EX, 37 P0.3/RTS0/RXD, 38 P0.2/CTS0/TXD, 39 P0.1, 40 P0.0, 41 VDD, 42 AVDD, 43 P1.0/AIN0/T2, 44 P1.1/AIN1/T3, 45 P1.2/AIN2, 46 P1.3/AIN3, 47 P1.4/AIN4/SPISS, 48 P4.2/PWM2
2 alternate drawings of the same symbol

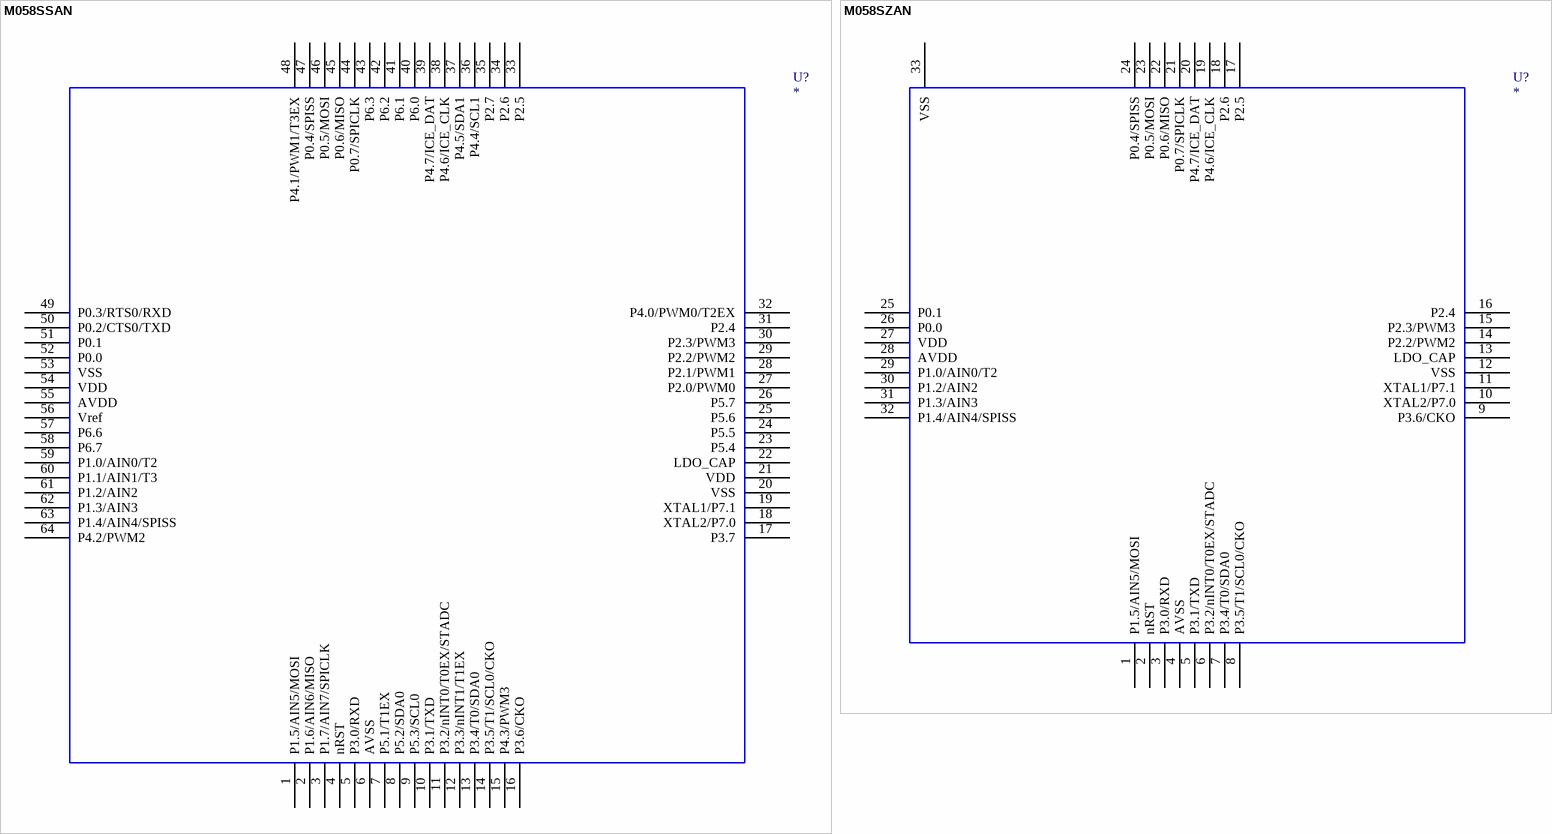
[diagram p22: symbols M058SSAN to M058SZAN]

## M058SSAN
designator U?
M058SSAN; OriginalSymbolOrigin: *; M058SSAN: *; Value: *
footprint TSQFP40P900X900X160-64N (TSQFP, 64-Leads, Body 7.00x7.00mm, Pitch 0.40mm, IPC Medium Density)
footprint TSQFP40P900X900X160-64M (TSQFP, 64-Leads, Body 7.00x7.00mm, Pitch 0.40mm, IPC Low Density)
footprint TSQFP40P900X900X160-64L (TSQFP, 64-Leads, Body 7.00x7.00mm, Pitch 0.40mm, IPC High Density)
pins: 1 P1.5/AIN5/MOSI, 2 P1.6/AIN6/MISO, 3 P1.7/AIN7/SPICLK, 4 nRST, 5 P3.0/RXD, 6 AVSS, 7 P5.1/T1EX, 8 P5.2/SDA0, 9 P5.3/SCL0, 10 P3.1/TXD, 11 P3.2/nINT0/T0EX/STADC, 12 P3.3/nINT1/T1EX, 13 P3.4/T0/SDA0, 14 P3.5/T1/SCL0/CKO, 15 P4.3/PWM3, 16 P3.6/CKO, 17 P3.7, 18 XTAL2/P7.0, 19 XTAL1/P7.1, 20 VSS, 21 VDD, 22 LDO_CAP, 23 P5.4, 24 P5.5, 25 P5.6, 26 P5.7, 27 P2.0/PWM0, 28 P2.1/PWM1, 29 P2.2/PWM2, 30 P2.3/PWM3, 31 P2.4, 32 P4.0/PWM0/T2EX, 33 P2.5, 34 P2.6, 35 P2.7, 36 P4.4/SCL1, 37 P4.5/SDA1, 38 P4.6/ICE_CLK, 39 P4.7/ICE_DAT, 40 P6.0, 41 P6.1, 42 P6.2, 43 P6.3, 44 P0.7/SPICLK, 45 P0.6/MISO, 46 P0.5/MOSI, 47 P0.4/SPISS, 48 P4.1/PWM1/T3EX, 49 P0.3/RTS0/RXD, 50 P0.2/CTS0/TXD, 51 P0.1, 52 P0.0, 53 VSS, 54 VDD, 55 AVDD, 56 Vref, 57 P6.6, 58 P6.7, 59 P1.0/AIN0/T2, 60 P1.1/AIN1/T3, 61 P1.2/AIN2, 62 P1.3/AIN3, 63 P1.4/AIN4/SPISS, 64 P4.2/PWM2
2 alternate drawings of the same symbol

## M058SZAN
designator U?
M058SZAN; OriginalSymbolOrigin: *; M058SZAN: *; Value: *
footprint QFN50P500X500X80_HS-33N (QFN, 32-Leads, Body 5.00x5.00mm, Pitch 0.50mm, Thermal Pad 3.50x3.50mm, IPC Medium Density)
footprint QFN50P500X500X80_HS-33M (QFN, 32-Leads, Body 5.00x5.00mm, Pitch 0.50mm, Thermal Pad 3.50x3.50mm, IPC Low Density)
footprint QFN50P500X500X80_HS-33L (QFN, 32-Leads, Body 5.00x5.00mm, Pitch 0.50mm, Thermal Pad 3.50x3.50mm, IPC High Density)
pins: 1 P1.5/AIN5/MOSI, 2 nRST, 3 P3.0/RXD, 4 AVSS, 5 P3.1/TXD, 6 P3.2/nINT0/T0EX/STADC, 7 P3.4/T0/SDA0, 8 P3.5/T1/SCL0/CKO, 9 P3.6/CKO, 10 XTAL2/P7.0, 11 XTAL1/P7.1, 12 VSS, 13 LDO_CAP, 14 P2.2/PWM2, 15 P2.3/PWM3, 16 P2.4, 17 P2.5, 18 P2.6, 19 P4.6/ICE_CLK, 20 P4.7/ICE_DAT, 21 P0.7/SPICLK, 22 P0.6/MISO, 23 P0.5/MOSI, 24 P0.4/SPISS, 25 P0.1, 26 P0.0, 27 VDD, 28 AVDD, 29 P1.0/AIN0/T2, 30 P1.2/AIN2, 31 P1.3/AIN3, 32 P1.4/AIN4/SPISS, 33 VSS
2 alternate drawings of the same symbol
